# Altium schematic symbol library con-hirose.SCHLIB: 72 symbols
Pins are listed as number, name and electrical type; pins without a type are passive.

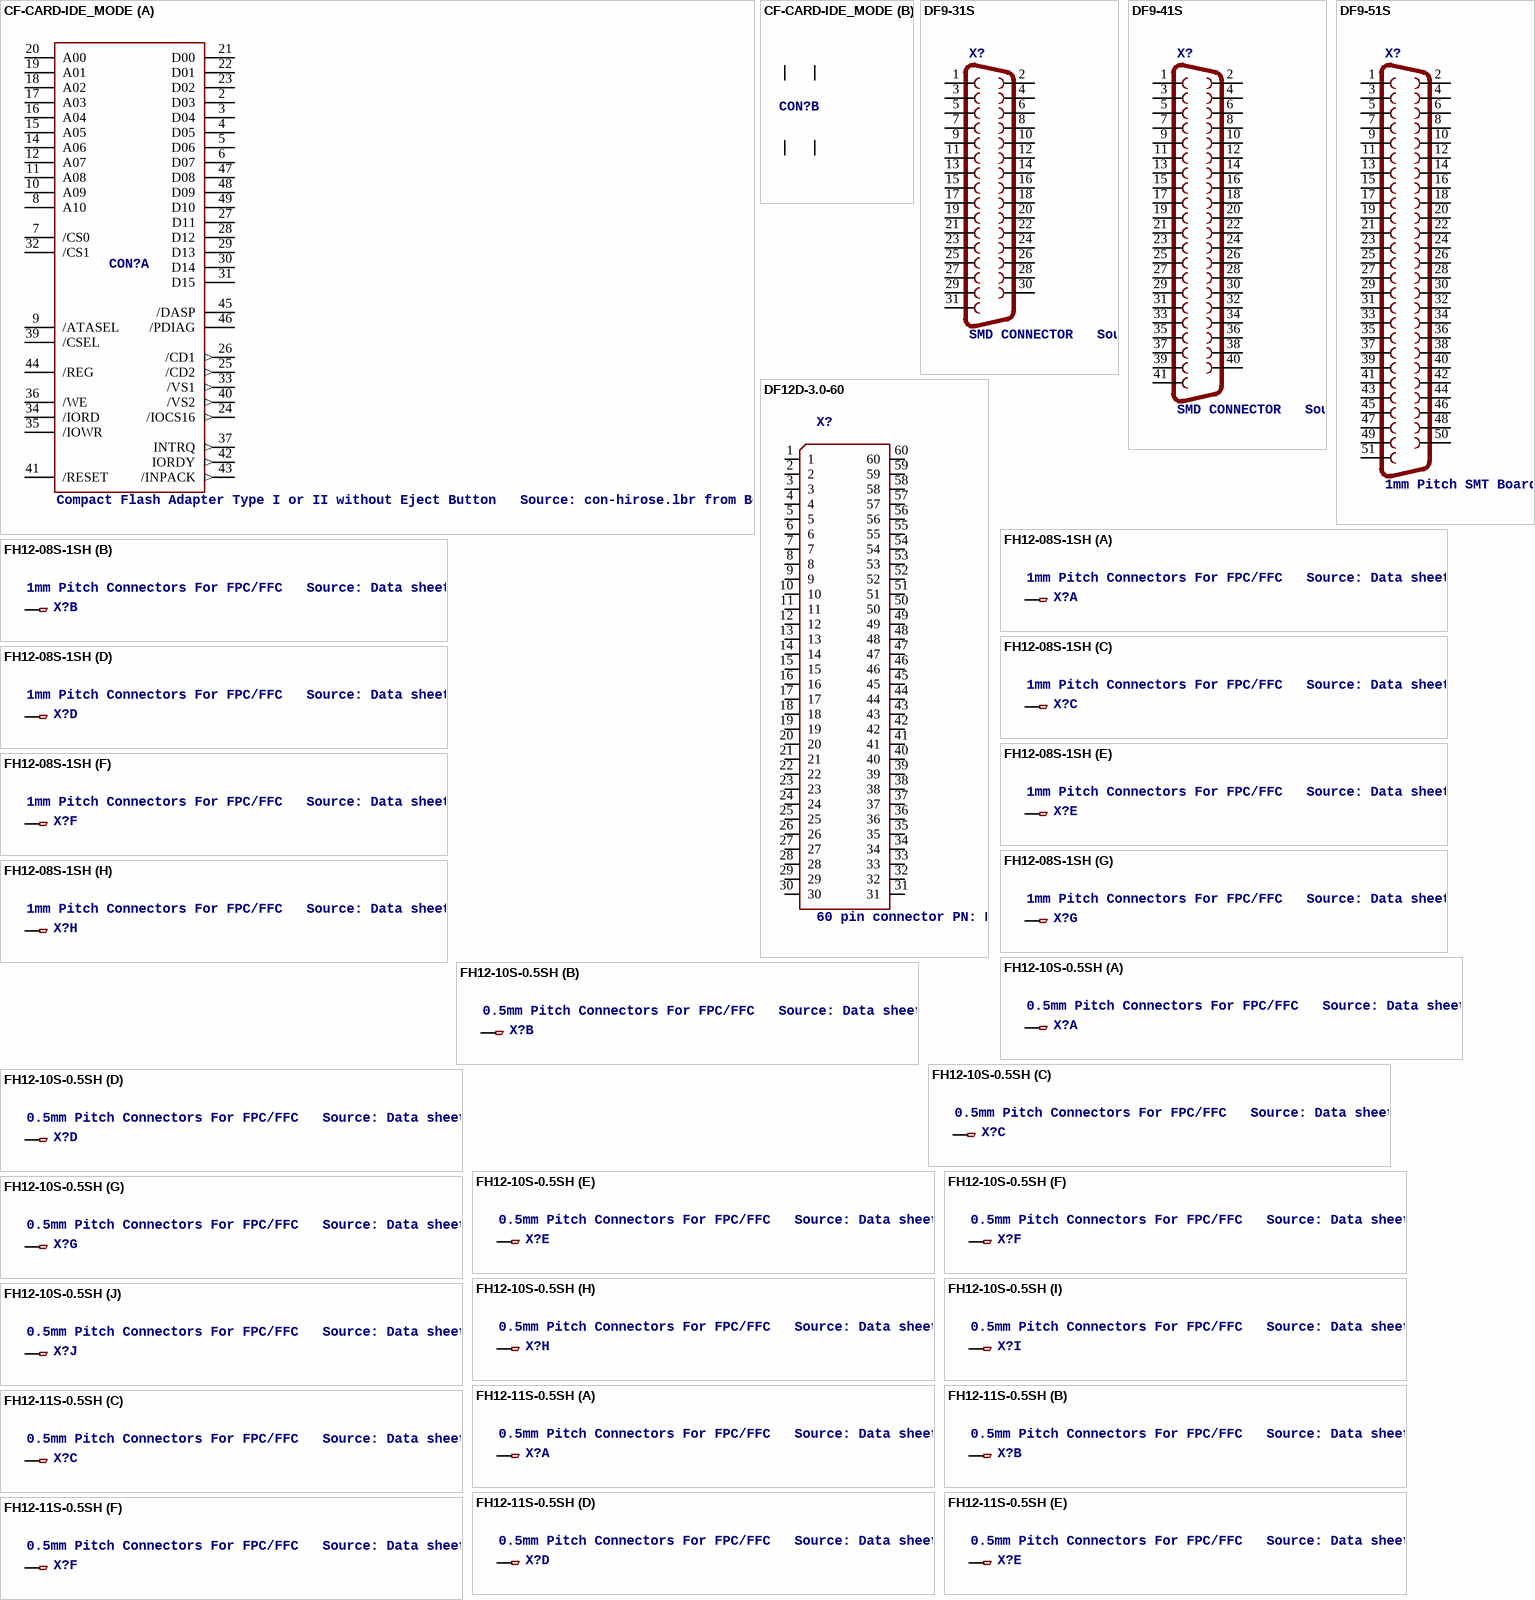
[diagram p0: symbols CF-CARD-IDE_MODE to FH12-11S-0.5SH]

## CF-CARD-IDE_MODE
designator CON?, comment Compact Flash Adapter Type I or II without Eject Button   Source: con-hirose.lbr from Bob Starr <rtzaudio@mindspring.com>
OC_FARNELL: unknown; OC_NEWARK: unknown
footprint MI20-50PD-SF
part A pins: 2 D03, 3 D04, 4 D05, 5 D06, 6 D07, 7 /CS0, 8 A10, 9 /ATASEL, 10 A09, 11 A08, 12 A07, 14 A06, 15 A05, 16 A04, 17 A03, 18 A02, 19 A01, 20 A00, 21 D00, 22 D01, 23 D02, 24 /IOCS16 (out), 25 /CD2 (out), 26 /CD1 (out), 27 D11, 28 D12, 29 D13, 30 D14, 31 D15, 32 /CS1, 33 /VS1 (out), 34 /IORD, 35 /IOWR, 36 /WE, 37 INTRQ (out), 39 /CSEL, 40 /VS2 (out), 41 /RESET, 42 IORDY (out), 43 /INPACK (out), 44 /REG, 45 /DASP, 46 /PDIAG, 47 D08, 48 D09, 49 D10
part B pins: 1 GND1 (power), 13 VCC2 (power), 38 VCC1 (power), 50 GND2 (power)

## DF9-31S
designator X?, comment SMD CONNECTOR   Source: con-hirose.lbr from Bob Starr <rtzaudio@mindspring.com>
MPN: DF9-31S-1V(32); OC_FARNELL: 1798382; OC_NEWARK: 74R3383
footprint DF9-31S
pins: 1, 2, 3, 4, 5, 6, 7, 8, 9, 10, 11, 12, 13, 14, 15, 16, 17, 18, 19, 20, 21, 22, 23, 24, 25, 26, 27, 28, 29, 30, 31

## DF9-41S
designator X?, comment SMD CONNECTOR   Source: con-hirose.lbr from Bob Starr <rtzaudio@mindspring.com>
MPN: DF9-41S-1V(32); OC_FARNELL: 1798384; OC_NEWARK: 74R3385
footprint DF9-41S
pins: 1, 2, 3, 4, 5, 6, 7, 8, 9, 10, 11, 12, 13, 14, 15, 16, 17, 18, 19, 20, 21, 22, 23, 24, 25, 26, 27, 28, 29, 30, 31, 32, 33, 34, 35, 36, 37, 38, 39, 40, 41

## DF9-51S
designator X?, comment 1mm Pitch SMT Board to Board Connector   (Standard Interface Connector Compliant with VESA FPDI-1) Source: http://www.hirose.co.jp/cataloge_hp/e54000041.pdf
OC_FARNELL: unknown; OC_NEWARK: unknown
footprint DF9-51S
pins: 1, 2, 3, 4, 5, 6, 7, 8, 9, 10, 11, 12, 13, 14, 15, 16, 17, 18, 19, 20, 21, 22, 23, 24, 25, 26, 27, 28, 29, 30, 31, 32, 33, 34, 35, 36, 37, 38, 39, 40, 41, 42, 43, 44, 45, 46, 47, 48, 49, 50, 51

## DF12D-3.0-60
designator X?, comment 60 pin connector PN: DF12D(3.0)-60DP-0.5V   Source: con-hirose-df12d(3.0)60dp0.5v80.lbr from Bob Starr <rtzaudio@mindspring.com>
OC_FARNELL: unknown; OC_NEWARK: unknown
footprint DF12-3.0-60
pins: 1, 2, 3, 4, 5, 6, 7, 8, 9, 10, 11, 12, 13, 14, 15, 16, 17, 18, 19, 20, 21, 22, 23, 24, 25, 26, 27, 28, 29, 30, 31, 32, 33, 34, 35, 36, 37, 38, 39, 40, 41, 42, 43, 44, 45, 46, 47, 48, 49, 50, 51, 52, 53, 54, 55, 56, 57, 58, 59, 60

## FH12-08S-1SH
designator X?, comment 1mm Pitch Connectors For FPC/FFC   Source: Data sheet
OC_FARNELL: unknown; OC_NEWARK: unknown
footprint FH12-08S-1SH
part A pins: 1
part B pins: 2 1
part C pins: 3 1
part D pins: 4 1
part E pins: 5 1
part F pins: 6 1
part G pins: 7 1
part H pins: 8 1

## FH12-10S-0.5SH
designator X?, comment 0.5mm Pitch Connectors For FPC/FFC   Source: Data sheet
MPN: FH12-10S-0.5SH(55); OC_FARNELL: 1324540; OC_NEWARK: 34M6152
footprint FH12-10S-0.5SH
part A pins: 1
part B pins: 2 1
part C pins: 3 1
part D pins: 4 1
part E pins: 5 1
part F pins: 6 1
part G pins: 7 1
part H pins: 8 1
part I pins: 9 1
part J pins: 10 1

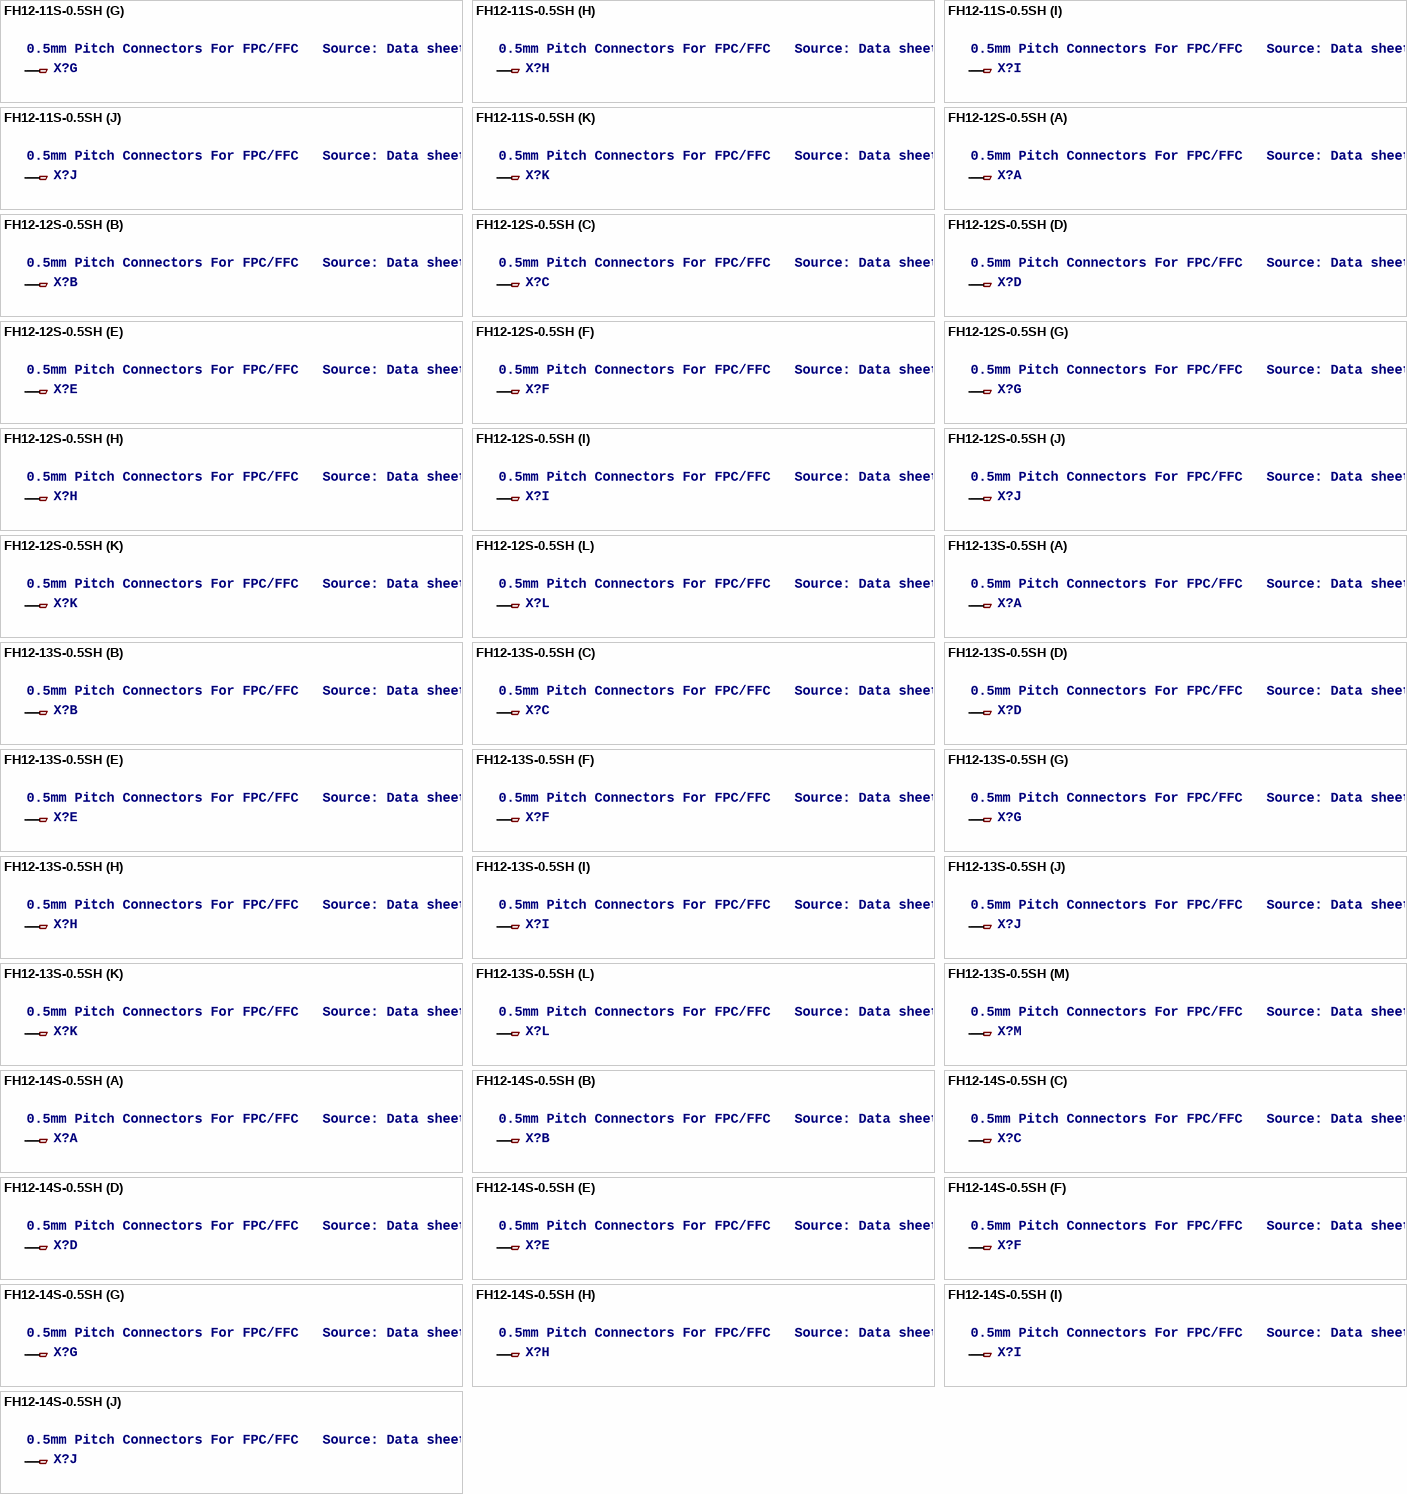
[diagram p1: symbols FH12-11S-0.5SH to FH12-14S-0.5SH]

## FH12-11S-0.5SH
designator X?, comment 0.5mm Pitch Connectors For FPC/FFC   Source: Data sheet
OC_FARNELL: 1324541; OC_NEWARK: unknown
footprint FH12-11S-0.5SH
part A pins: 1
part B pins: 2 1
part C pins: 3 1
part D pins: 4 1
part E pins: 5 1
part F pins: 6 1
part G pins: 7 1
part H pins: 8 1
part I pins: 9 1
part J pins: 10 1
part K pins: 11 1

## FH12-12S-0.5SH
designator X?, comment 0.5mm Pitch Connectors For FPC/FFC   Source: Data sheet
MPN: FH12-12S-0.5SH(55); OC_FARNELL: 1324542; OC_NEWARK: 34M6155
footprint FH12-12S-0.5SH
part A pins: 1
part B pins: 2 1
part C pins: 3 1
part D pins: 4 1
part E pins: 5 1
part F pins: 6 1
part G pins: 7 1
part H pins: 8 1
part I pins: 9 1
part J pins: 10 1
part K pins: 11 1
part L pins: 12 1

## FH12-13S-0.5SH
designator X?, comment 0.5mm Pitch Connectors For FPC/FFC   Source: Data sheet
OC_FARNELL: 1324543; OC_NEWARK: unknown
footprint FH12-13S-0.5SH
part A pins: 1
part B pins: 2 1
part C pins: 3 1
part D pins: 4 1
part E pins: 5 1
part F pins: 6 1
part G pins: 7 1
part H pins: 8 1
part I pins: 9 1
part J pins: 10 1
part K pins: 11 1
part L pins: 12 1
part M pins: 13 1

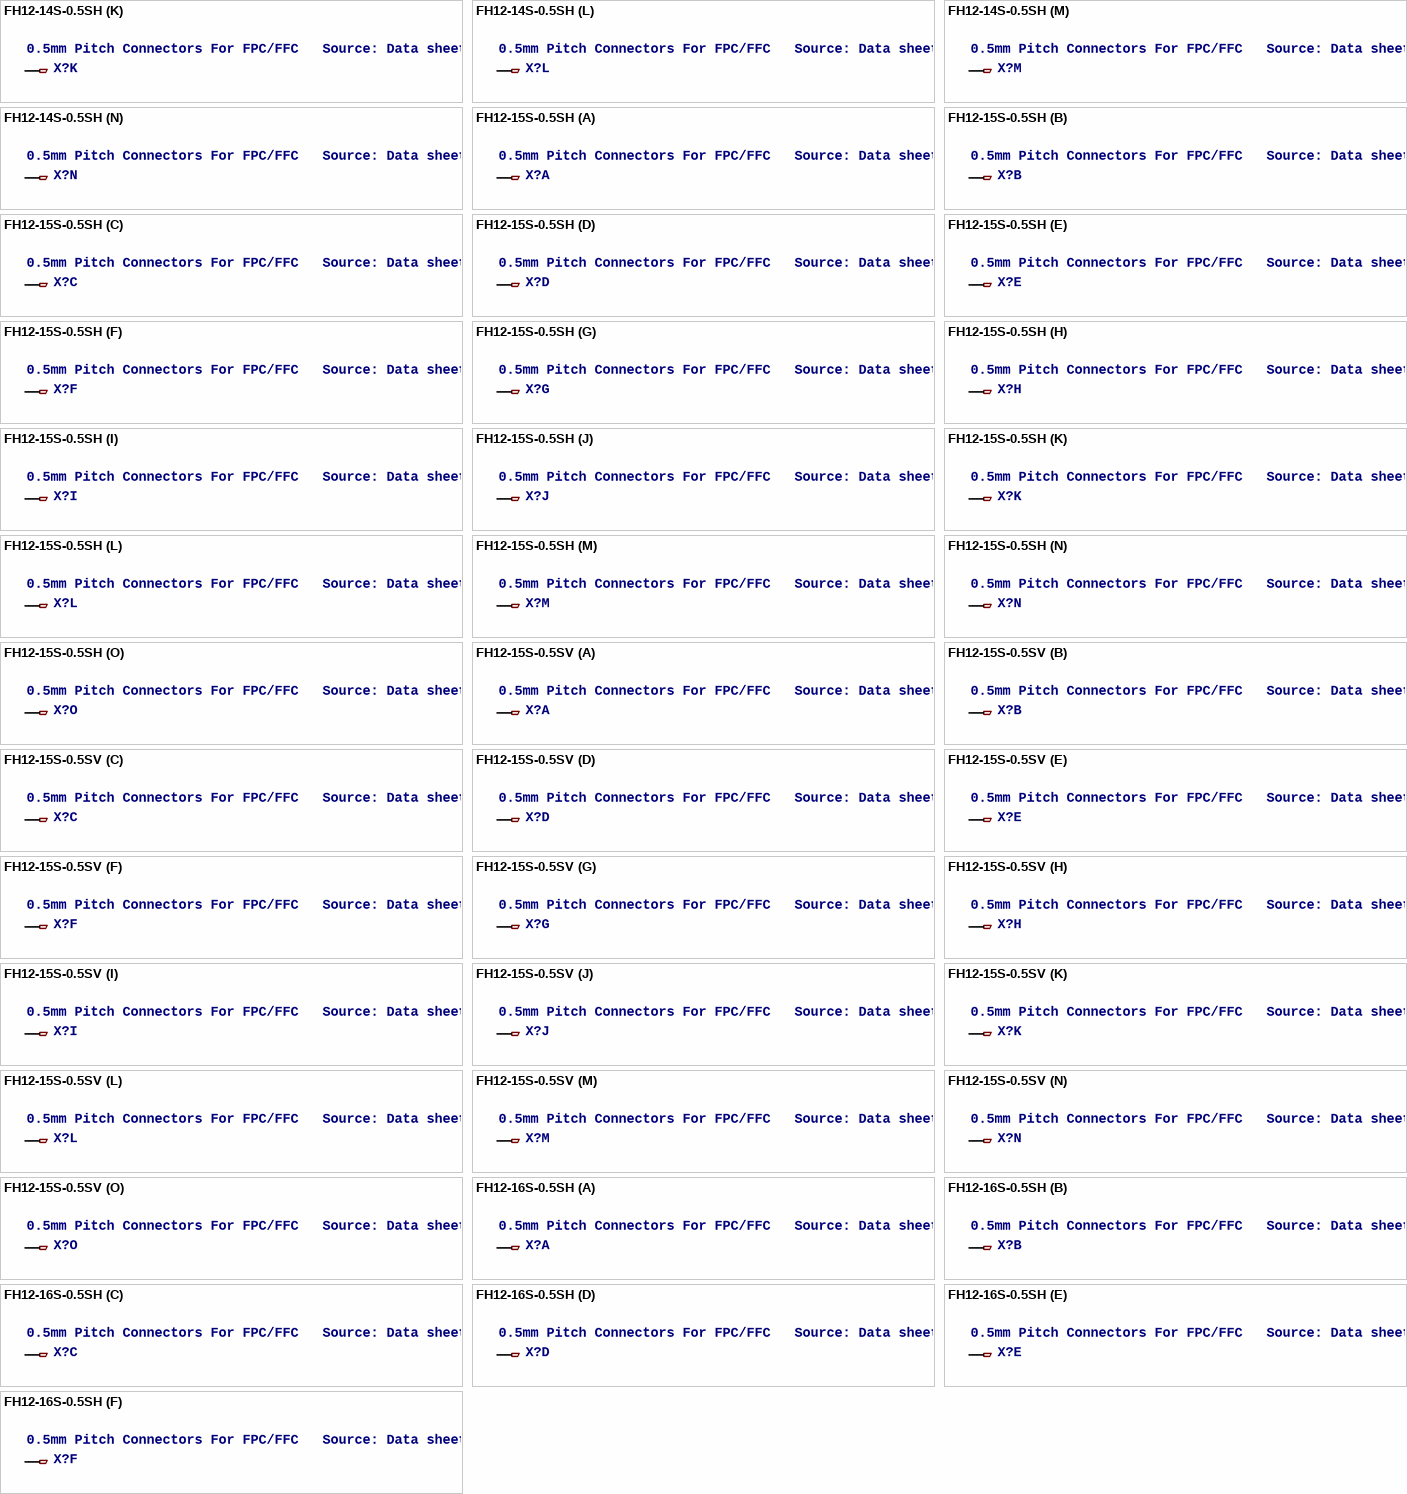
[diagram p2: symbols FH12-14S-0.5SH to FH12-16S-0.5SH]

## FH12-14S-0.5SH
designator X?, comment 0.5mm Pitch Connectors For FPC/FFC   Source: Data sheet
MPN: MC34827; OC_FARNELL: 1324544; OC_NEWARK: 41P0493
footprint FH12-14S-0.5SH
part A pins: 1
part B pins: 2 1
part C pins: 3 1
part D pins: 4 1
part E pins: 5 1
part F pins: 6 1
part G pins: 7 1
part H pins: 8 1
part I pins: 9 1
part J pins: 10 1
part K pins: 11 1
part L pins: 12 1
part M pins: 13 1
part N pins: 14 1

## FH12-15S-0.5SH
designator X?, comment 0.5mm Pitch Connectors For FPC/FFC   Source: Data sheet
OC_FARNELL: 1324545; OC_NEWARK: unknown
footprint FH12-15S-0.5SH
part A pins: 1
part B pins: 2 1
part C pins: 3 1
part D pins: 4 1
part E pins: 5 1
part F pins: 6 1
part G pins: 7 1
part H pins: 8 1
part I pins: 9 1
part J pins: 10 1
part K pins: 11 1
part L pins: 12 1
part M pins: 13 1
part N pins: 14 1
part O pins: 15 1

## FH12-15S-0.5SV
designator X?, comment 0.5mm Pitch Connectors For FPC/FFC   Source: Data sheet
OC_FARNELL: 1324575; OC_NEWARK: unknown
footprint FH12-15S-0.5SV
part A pins: 1
part B pins: 2 1
part C pins: 3 1
part D pins: 4 1
part E pins: 5 1
part F pins: 6 1
part G pins: 7 1
part H pins: 8 1
part I pins: 9 1
part J pins: 10 1
part K pins: 11 1
part L pins: 12 1
part M pins: 13 1
part N pins: 14 1
part O pins: 15 1

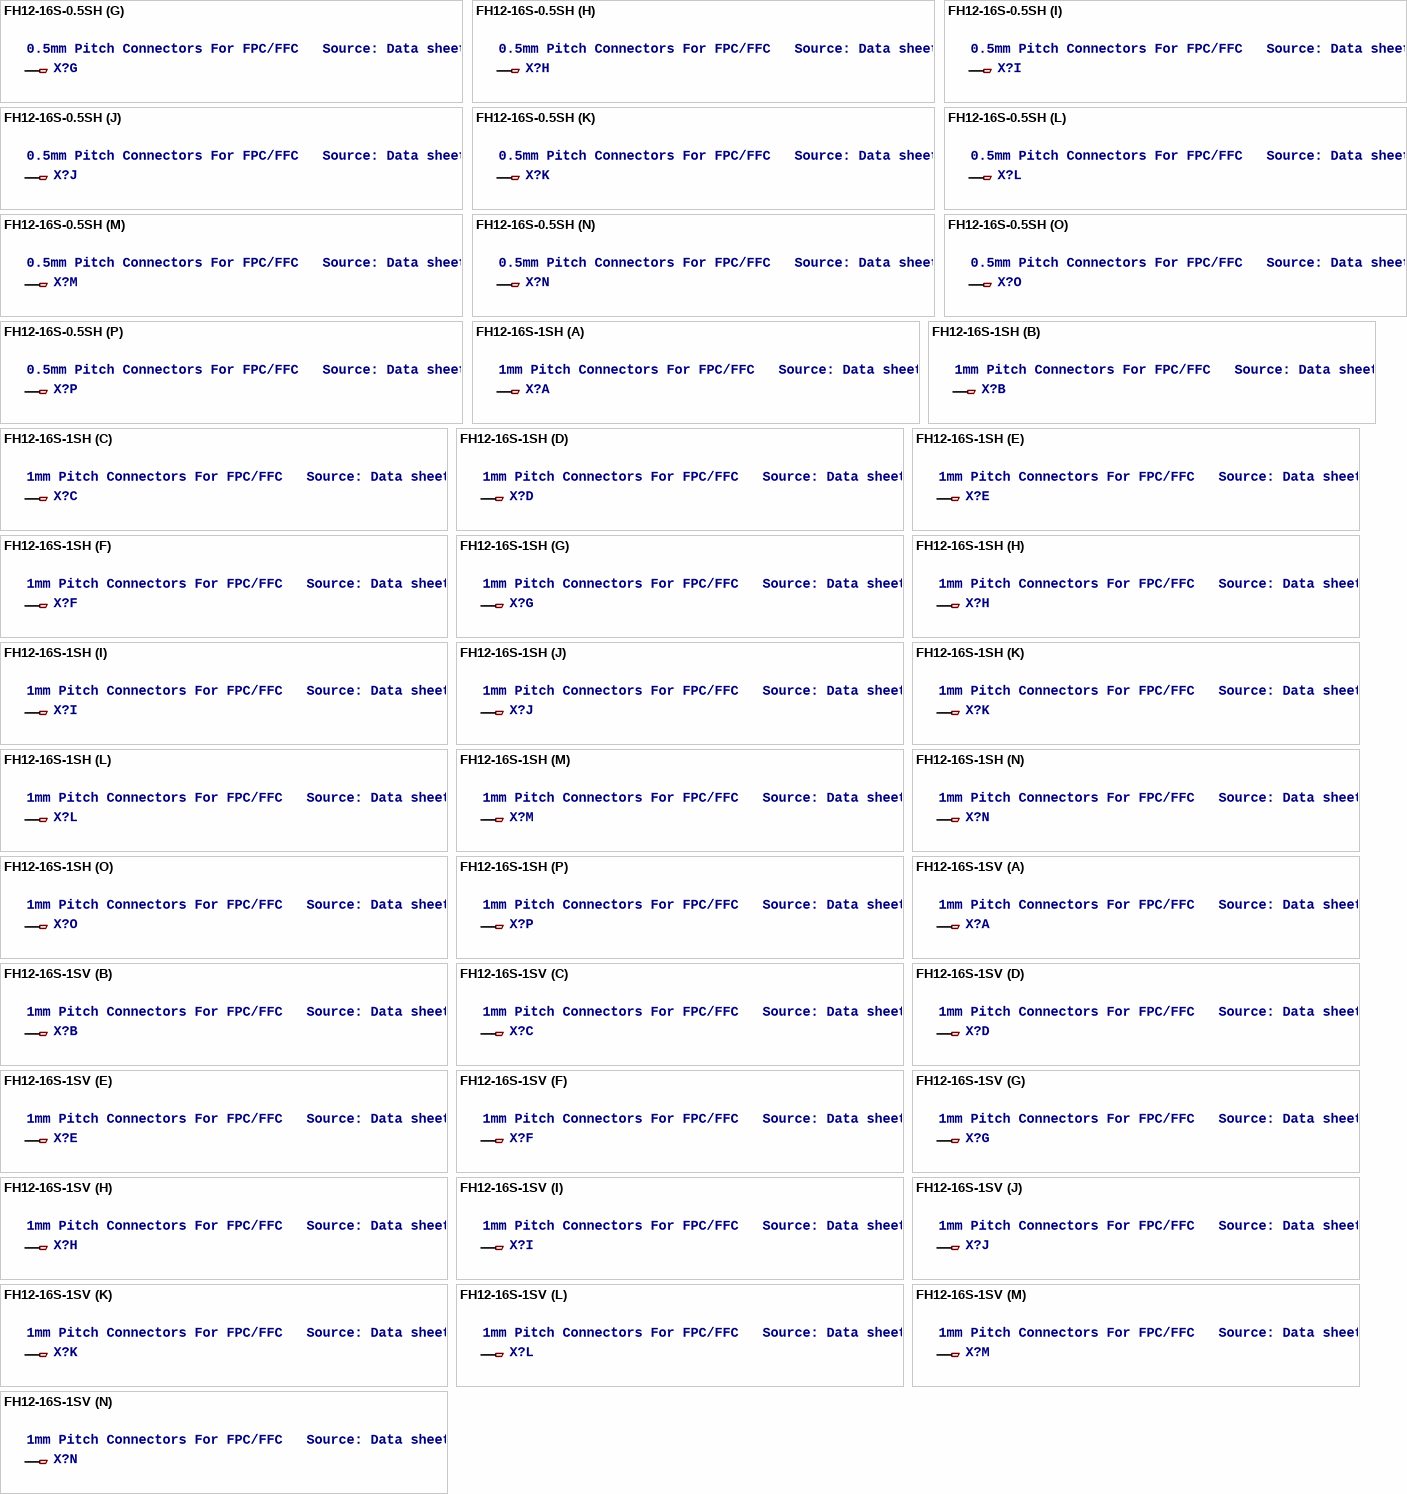
[diagram p3: symbols FH12-16S-0.5SH to FH12-16S-1SV]

## FH12-16S-0.5SH
designator X?, comment 0.5mm Pitch Connectors For FPC/FFC   Source: Data sheet
MPN: FH12-16S-0.5SH(55); OC_FARNELL: 1324546; OC_NEWARK: 34M6162
footprint FH12-16S-0.5SH
part A pins: 1
part B pins: 2 1
part C pins: 3 1
part D pins: 4 1
part E pins: 5 1
part F pins: 6 1
part G pins: 7 1
part H pins: 8 1
part I pins: 9 1
part J pins: 10 1
part K pins: 11 1
part L pins: 12 1
part M pins: 13 1
part N pins: 14 1
part O pins: 15 1
part P pins: 16 1

## FH12-16S-1SH
designator X?, comment 1mm Pitch Connectors For FPC/FFC   Source: Data sheet
OC_FARNELL: unknown; OC_NEWARK: unknown
footprint FH12-16S-1SH
part A pins: 1
part B pins: 2 1
part C pins: 3 1
part D pins: 4 1
part E pins: 5 1
part F pins: 6 1
part G pins: 7 1
part H pins: 8 1
part I pins: 9 1
part J pins: 10 1
part K pins: 11 1
part L pins: 12 1
part M pins: 13 1
part N pins: 14 1
part O pins: 15 1
part P pins: 16 1

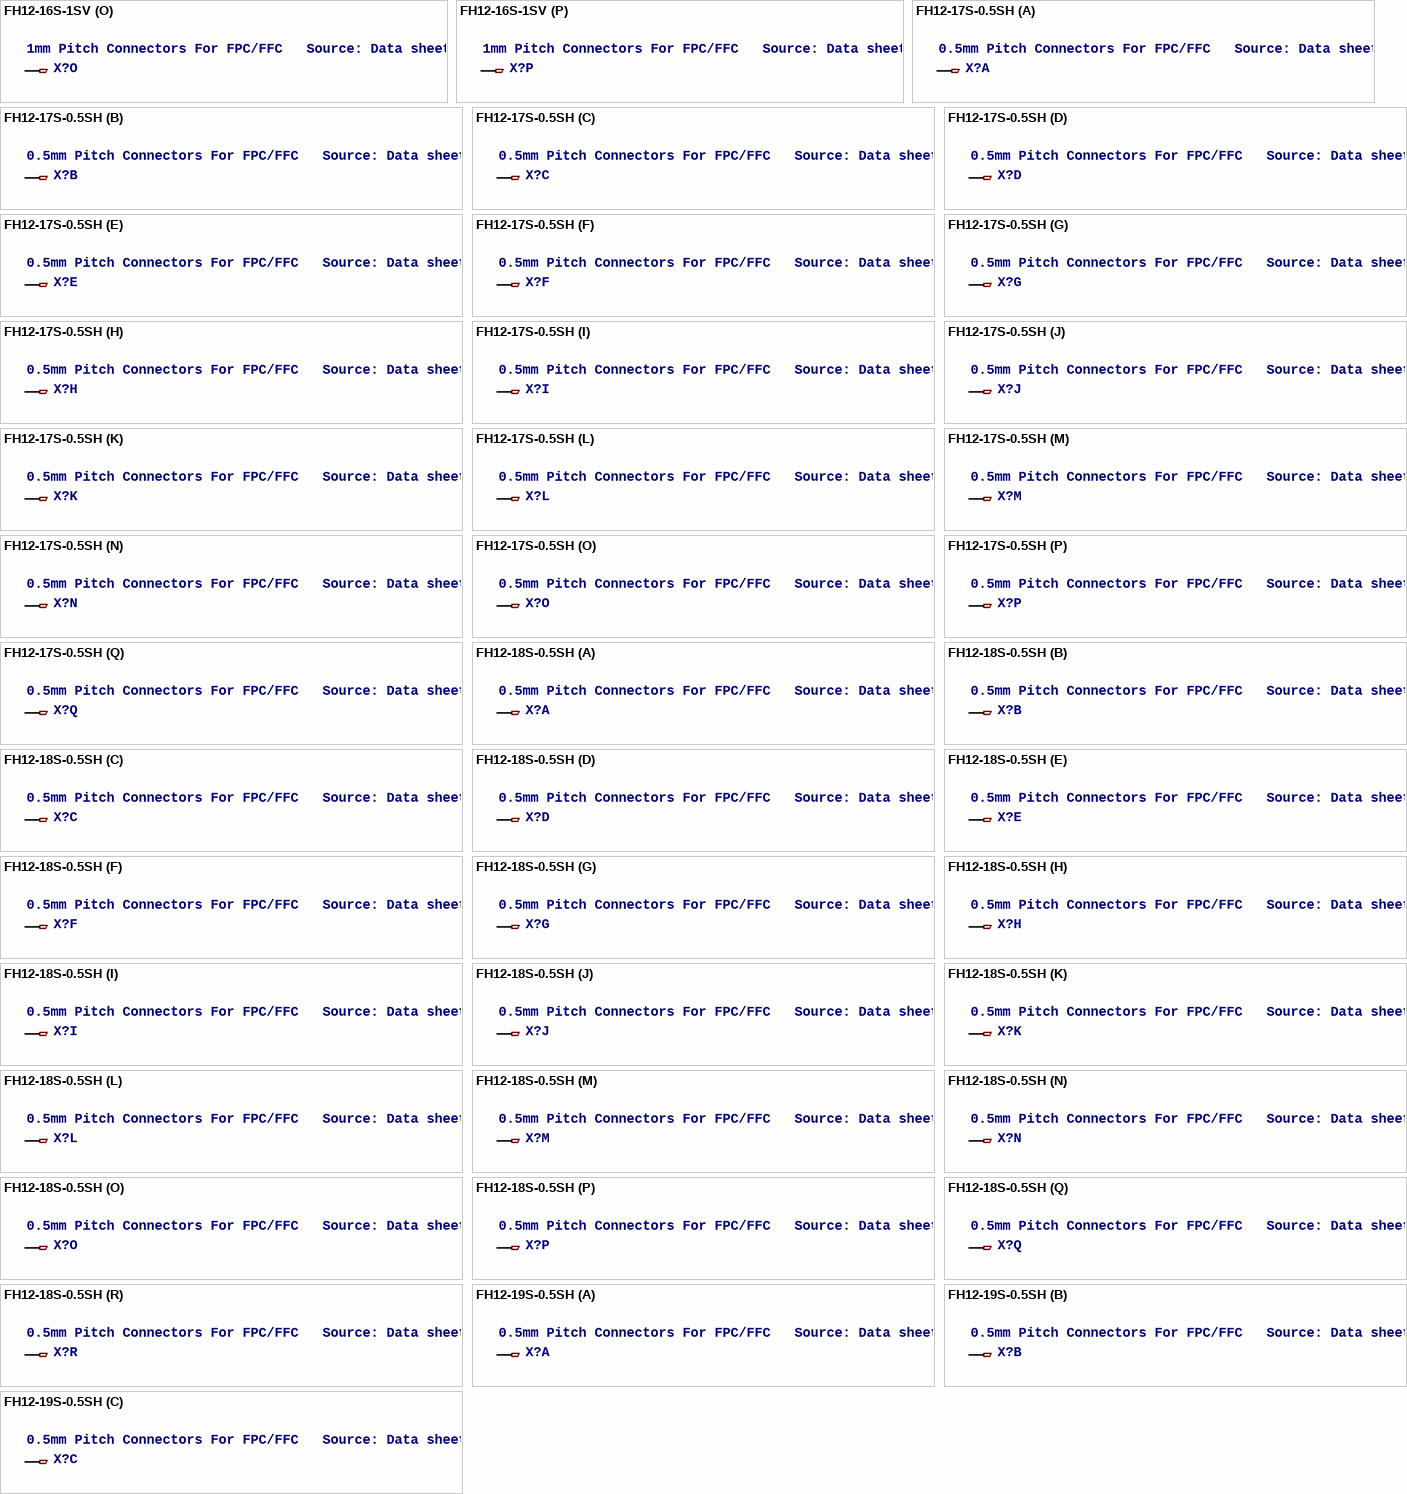
[diagram p4: symbols FH12-16S-1SV to FH12-19S-0.5SH]

## FH12-16S-1SV
designator X?, comment 1mm Pitch Connectors For FPC/FFC   Source: Data sheet
OC_FARNELL: unknown; OC_NEWARK: unknown
footprint FH12-16S-1SV
part A pins: 1
part B pins: 2 1
part C pins: 3 1
part D pins: 4 1
part E pins: 5 1
part F pins: 6 1
part G pins: 7 1
part H pins: 8 1
part I pins: 9 1
part J pins: 10 1
part K pins: 11 1
part L pins: 12 1
part M pins: 13 1
part N pins: 14 1
part O pins: 15 1
part P pins: 16 1

## FH12-17S-0.5SH
designator X?, comment 0.5mm Pitch Connectors For FPC/FFC   Source: Data sheet
OC_FARNELL: unknown; OC_NEWARK: unknown
footprint FH12-17S-0.5SH
part A pins: 1
part B pins: 2 1
part C pins: 3 1
part D pins: 4 1
part E pins: 5 1
part F pins: 6 1
part G pins: 7 1
part H pins: 8 1
part I pins: 9 1
part J pins: 10 1
part K pins: 11 1
part L pins: 12 1
part M pins: 13 1
part N pins: 14 1
part O pins: 15 1
part P pins: 16 1
part Q pins: 17 1

## FH12-18S-0.5SH
designator X?, comment 0.5mm Pitch Connectors For FPC/FFC   Source: Data sheet
MPN: FH12-18S-0.5SH(55); OC_FARNELL: 1324547; OC_NEWARK: 34M6164
footprint FH12-18S-0.5SH
part A pins: 1
part B pins: 2 1
part C pins: 3 1
part D pins: 4 1
part E pins: 5 1
part F pins: 6 1
part G pins: 7 1
part H pins: 8 1
part I pins: 9 1
part J pins: 10 1
part K pins: 11 1
part L pins: 12 1
part M pins: 13 1
part N pins: 14 1
part O pins: 15 1
part P pins: 16 1
part Q pins: 17 1
part R pins: 18 1

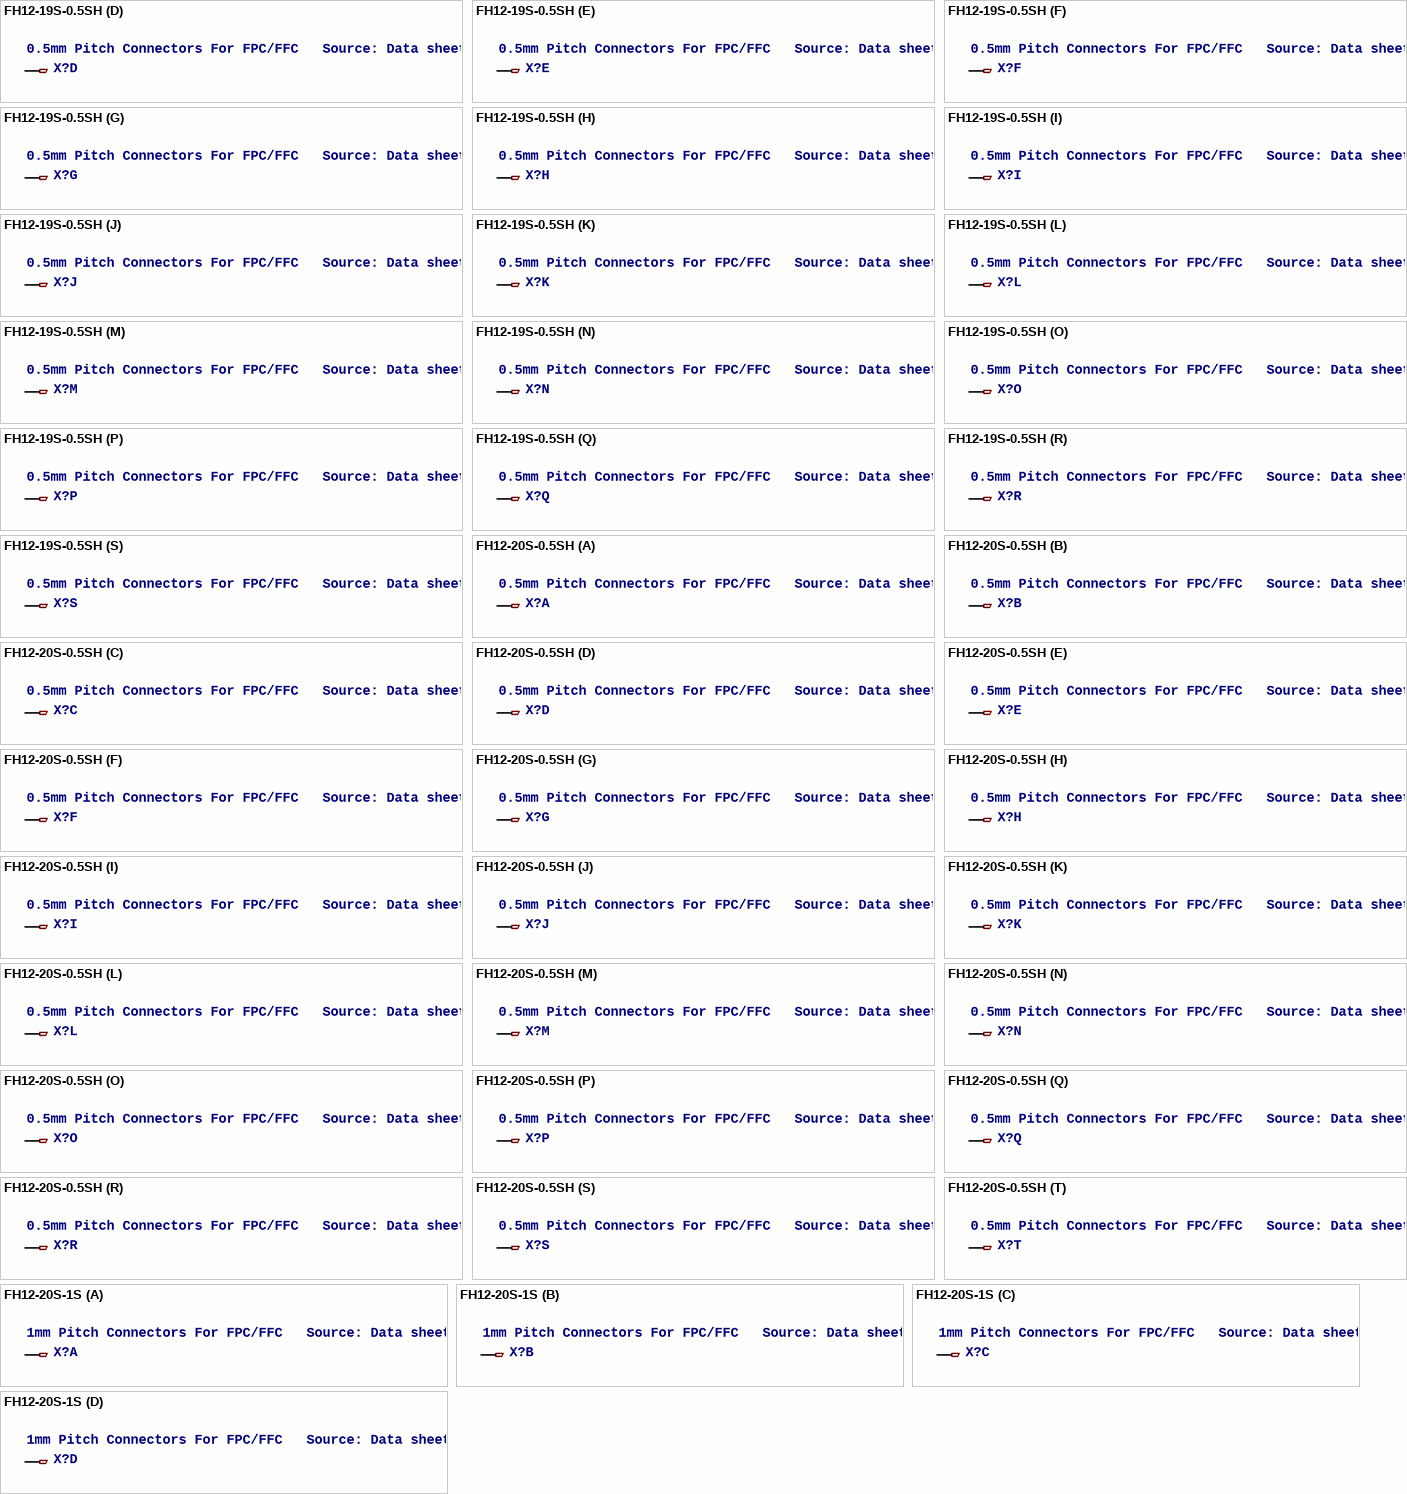
[diagram p5: symbols FH12-19S-0.5SH to FH12-20S-1S]

## FH12-19S-0.5SH
designator X?, comment 0.5mm Pitch Connectors For FPC/FFC   Source: Data sheet
OC_FARNELL: unknown; OC_NEWARK: unknown
footprint FH12-19S-0.5SH
part A pins: 1
part B pins: 2 1
part C pins: 3 1
part D pins: 4 1
part E pins: 5 1
part F pins: 6 1
part G pins: 7 1
part H pins: 8 1
part I pins: 9 1
part J pins: 10 1
part K pins: 11 1
part L pins: 12 1
part M pins: 13 1
part N pins: 14 1
part O pins: 15 1
part P pins: 16 1
part Q pins: 17 1
part R pins: 18 1
part S pins: 19 1

## FH12-20S-0.5SH
designator X?, comment 0.5mm Pitch Connectors For FPC/FFC   Source: Data sheet
MPN: FH12-20S-0.5SH(55); OC_FARNELL: 1324549; OC_NEWARK: 34M6166
footprint FH12-20S-0.5SH
part A pins: 1
part B pins: 2 1
part C pins: 3 1
part D pins: 4 1
part E pins: 5 1
part F pins: 6 1
part G pins: 7 1
part H pins: 8 1
part I pins: 9 1
part J pins: 10 1
part K pins: 11 1
part L pins: 12 1
part M pins: 13 1
part N pins: 14 1
part O pins: 15 1
part P pins: 16 1
part Q pins: 17 1
part R pins: 18 1
part S pins: 19 1
part T pins: 20 1

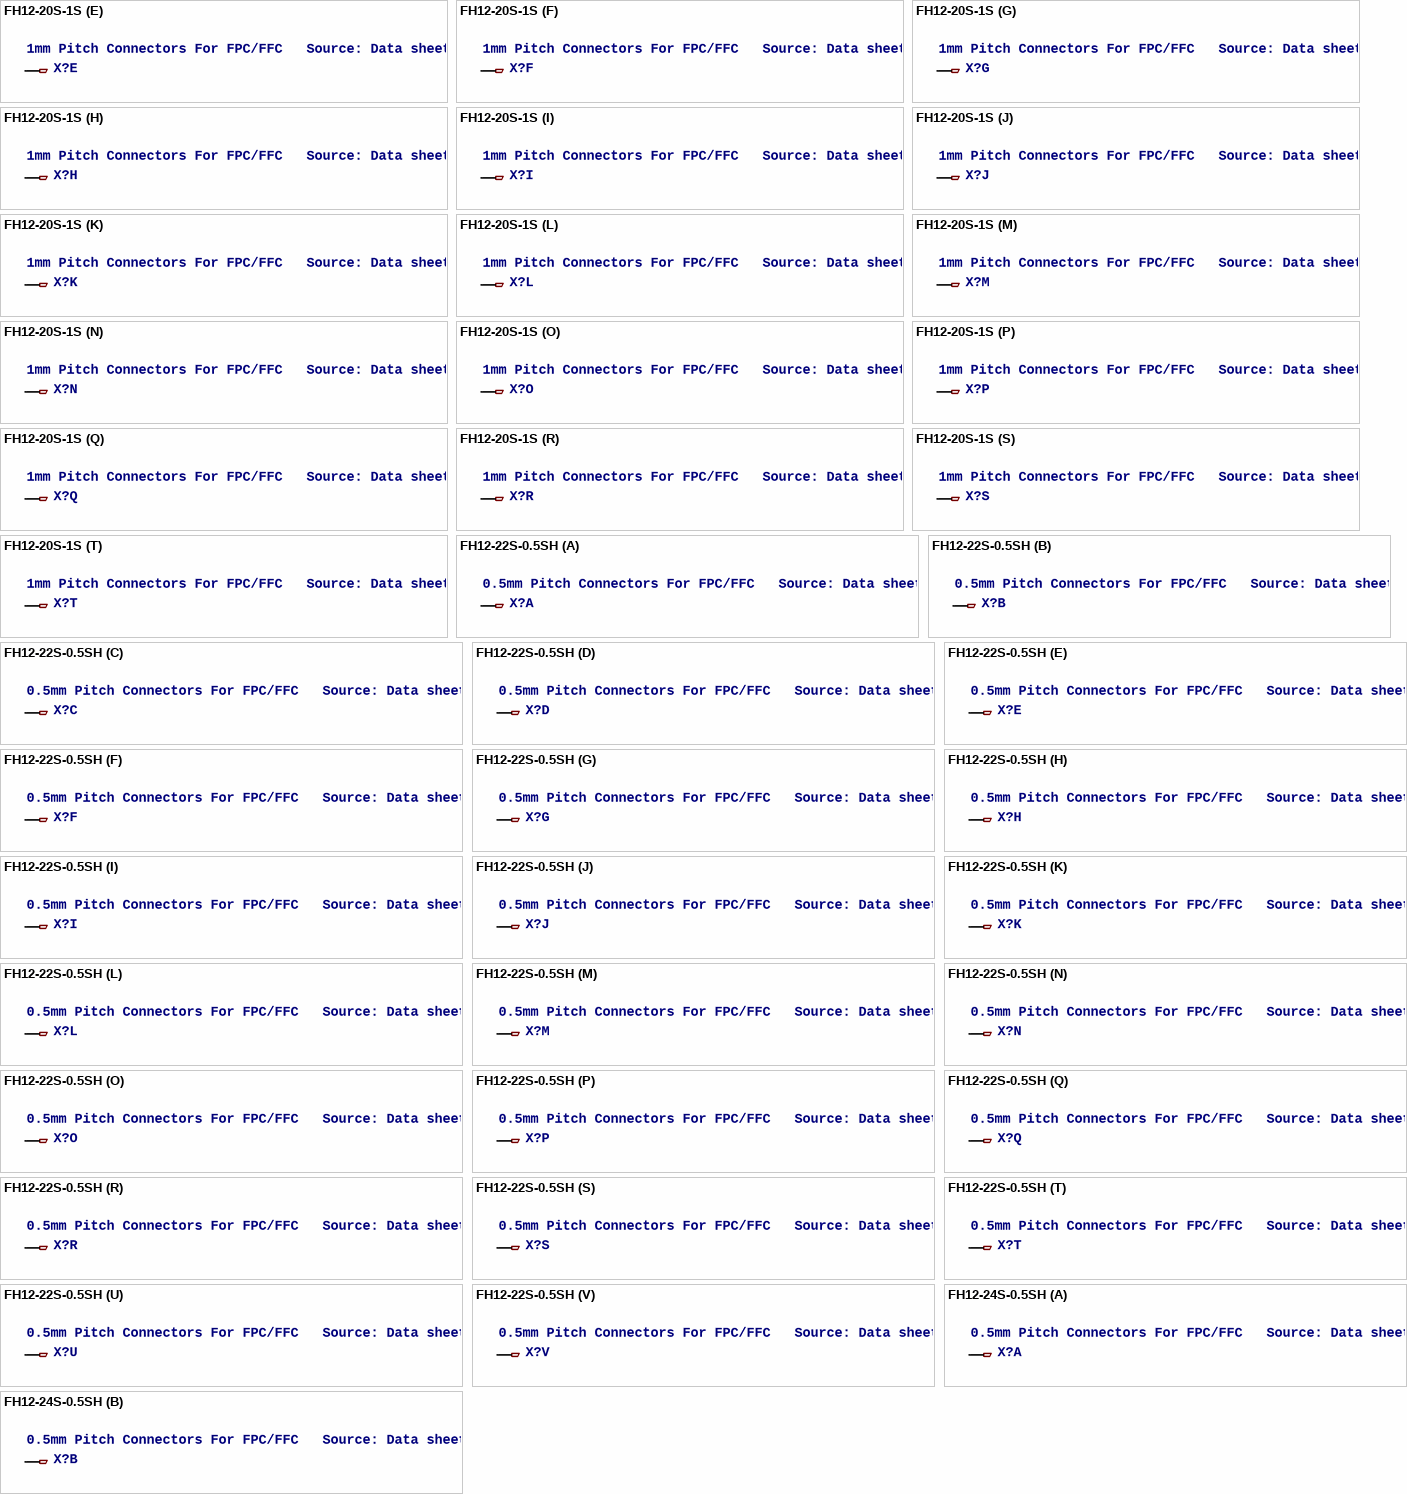
[diagram p6: symbols FH12-20S-1S to FH12-24S-0.5SH]

## FH12-20S-1S
designator X?, comment 1mm Pitch Connectors For FPC/FFC   Source: Data sheet
OC_FARNELL: unknown; OC_NEWARK: unknown
footprint FH12-20S-1SV
part A pins: 1
part B pins: 2 1
part C pins: 3 1
part D pins: 4 1
part E pins: 5 1
part F pins: 6 1
part G pins: 7 1
part H pins: 8 1
part I pins: 9 1
part J pins: 10 1
part K pins: 11 1
part L pins: 12 1
part M pins: 13 1
part N pins: 14 1
part O pins: 15 1
part P pins: 16 1
part Q pins: 17 1
part R pins: 18 1
part S pins: 19 1
part T pins: 20 1

## FH12-22S-0.5SH
designator X?, comment 0.5mm Pitch Connectors For FPC/FFC   Source: Data sheet
OC_FARNELL: 1324551; OC_NEWARK: unknown
footprint FH12-22S-0.5SH
part A pins: 1
part B pins: 2 1
part C pins: 3 1
part D pins: 4 1
part E pins: 5 1
part F pins: 6 1
part G pins: 7 1
part H pins: 8 1
part I pins: 9 1
part J pins: 10 1
part K pins: 11 1
part L pins: 12 1
part M pins: 13 1
part N pins: 14 1
part O pins: 15 1
part P pins: 16 1
part Q pins: 17 1
part R pins: 18 1
part S pins: 19 1
part T pins: 20 1
part U pins: 21 1
part V pins: 22 1

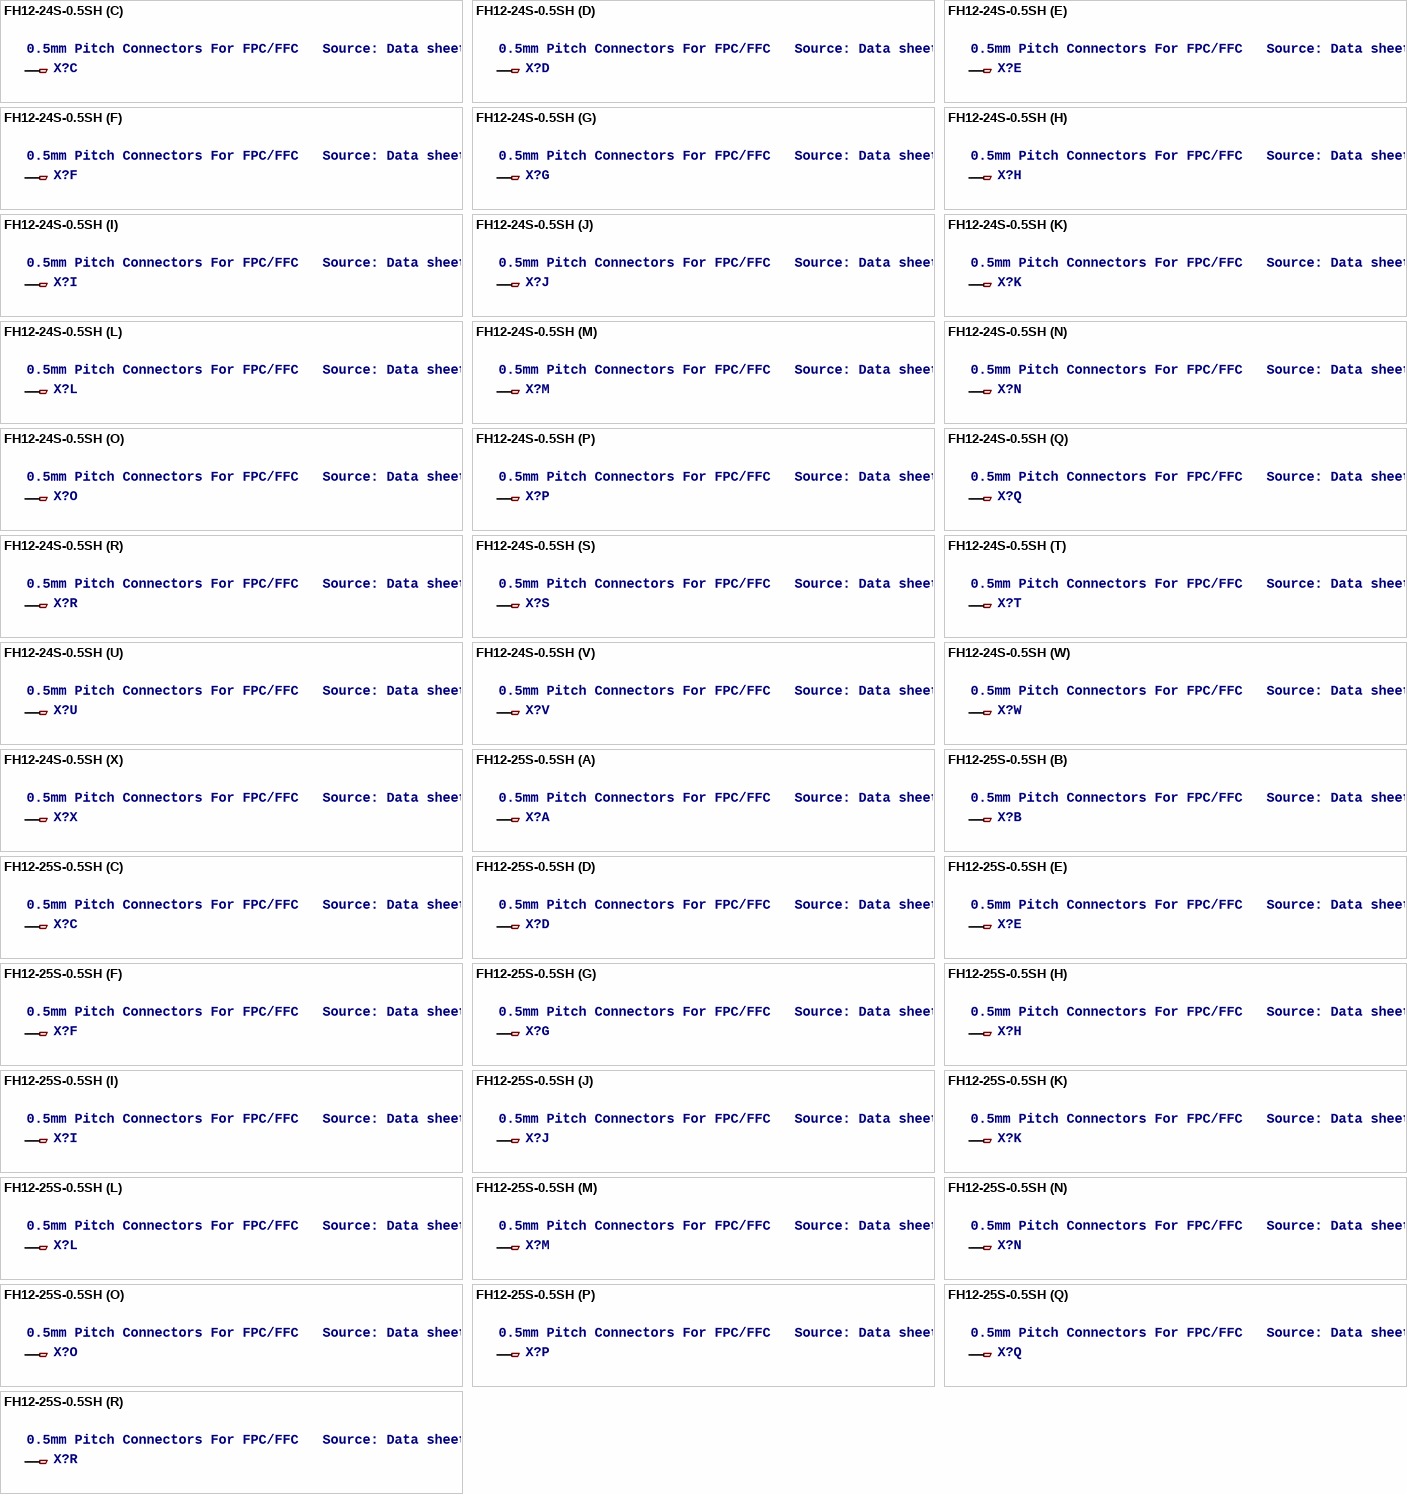
[diagram p7: symbols FH12-24S-0.5SH to FH12-25S-0.5SH]

## FH12-24S-0.5SH
designator X?, comment 0.5mm Pitch Connectors For FPC/FFC   Source: Data sheet
MPN: FH12-24S-0.5SH(55); OC_FARNELL: 1324552; OC_NEWARK: 34M6170
footprint FH12-24S-0.5SH
part A pins: 1
part B pins: 2 1
part C pins: 3 1
part D pins: 4 1
part E pins: 5 1
part F pins: 6 1
part G pins: 7 1
part H pins: 8 1
part I pins: 9 1
part J pins: 10 1
part K pins: 11 1
part L pins: 12 1
part M pins: 13 1
part N pins: 14 1
part O pins: 15 1
part P pins: 16 1
part Q pins: 17 1
part R pins: 18 1
part S pins: 19 1
part T pins: 20 1
part U pins: 21 1
part V pins: 22 1
part W pins: 23 1
part X pins: 24 1

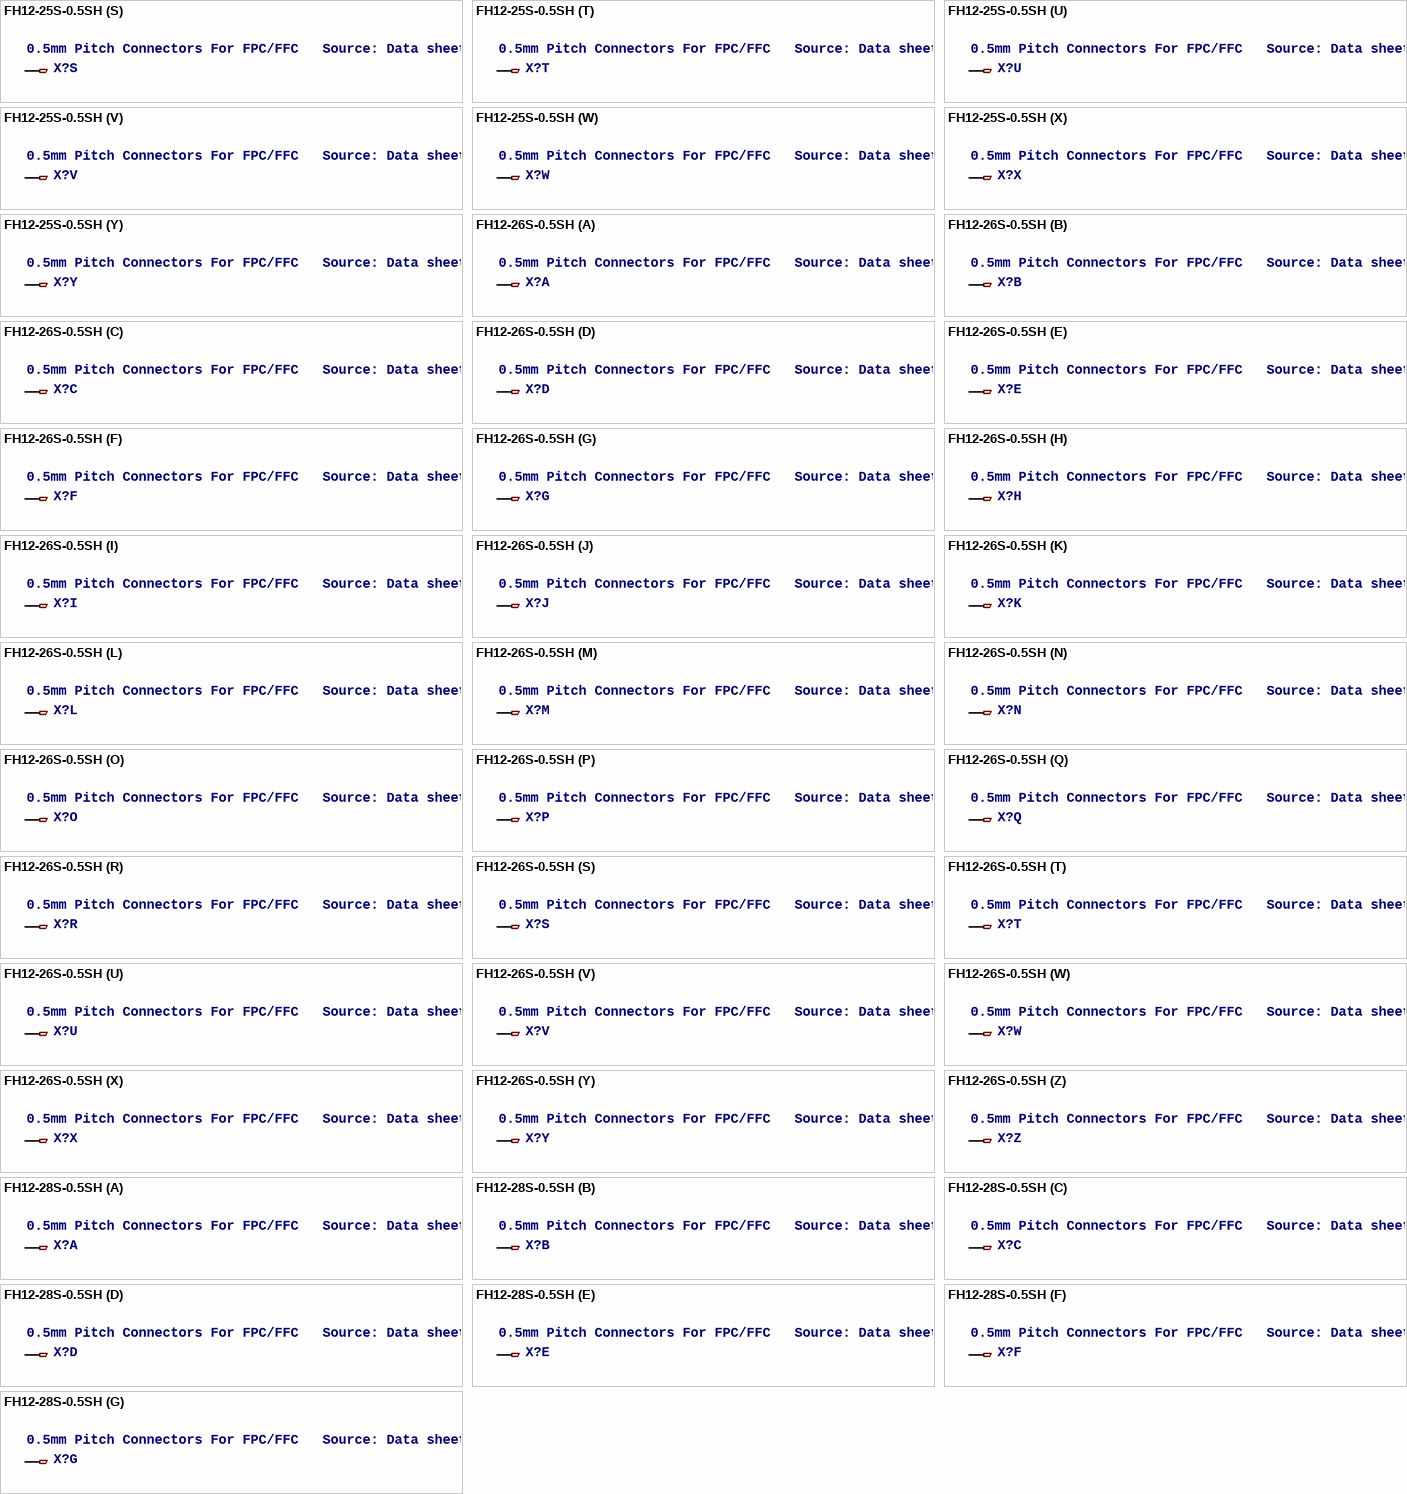
[diagram p8: symbols FH12-25S-0.5SH to FH12-28S-0.5SH]

## FH12-25S-0.5SH
designator X?, comment 0.5mm Pitch Connectors For FPC/FFC   Source: Data sheet
OC_FARNELL: unknown; OC_NEWARK: unknown
footprint FH12-25S-0.5SH
part A pins: 1
part B pins: 2 1
part C pins: 3 1
part D pins: 4 1
part E pins: 5 1
part F pins: 6 1
part G pins: 7 1
part H pins: 8 1
part I pins: 9 1
part J pins: 10 1
part K pins: 11 1
part L pins: 12 1
part M pins: 13 1
part N pins: 14 1
part O pins: 15 1
part P pins: 16 1
part Q pins: 17 1
part R pins: 18 1
part S pins: 19 1
part T pins: 20 1
part U pins: 21 1
part V pins: 22 1
part W pins: 23 1
part X pins: 24 1
part Y pins: 25 1

## FH12-26S-0.5SH
designator X?, comment 0.5mm Pitch Connectors For FPC/FFC   Source: Data sheet
MPN: FH12-26S-0.5SH(55); OC_FARNELL: 1324553; OC_NEWARK: 34M6172
footprint FH12-26S-0.5SH
part A pins: 1
part B pins: 2 1
part C pins: 3 1
part D pins: 4 1
part E pins: 5 1
part F pins: 6 1
part G pins: 7 1
part H pins: 8 1
part I pins: 9 1
part J pins: 10 1
part K pins: 11 1
part L pins: 12 1
part M pins: 13 1
part N pins: 14 1
part O pins: 15 1
part P pins: 16 1
part Q pins: 17 1
part R pins: 18 1
part S pins: 19 1
part T pins: 20 1
part U pins: 21 1
part V pins: 22 1
part W pins: 23 1
part X pins: 24 1
part Y pins: 25 1
part Z pins: 26 1

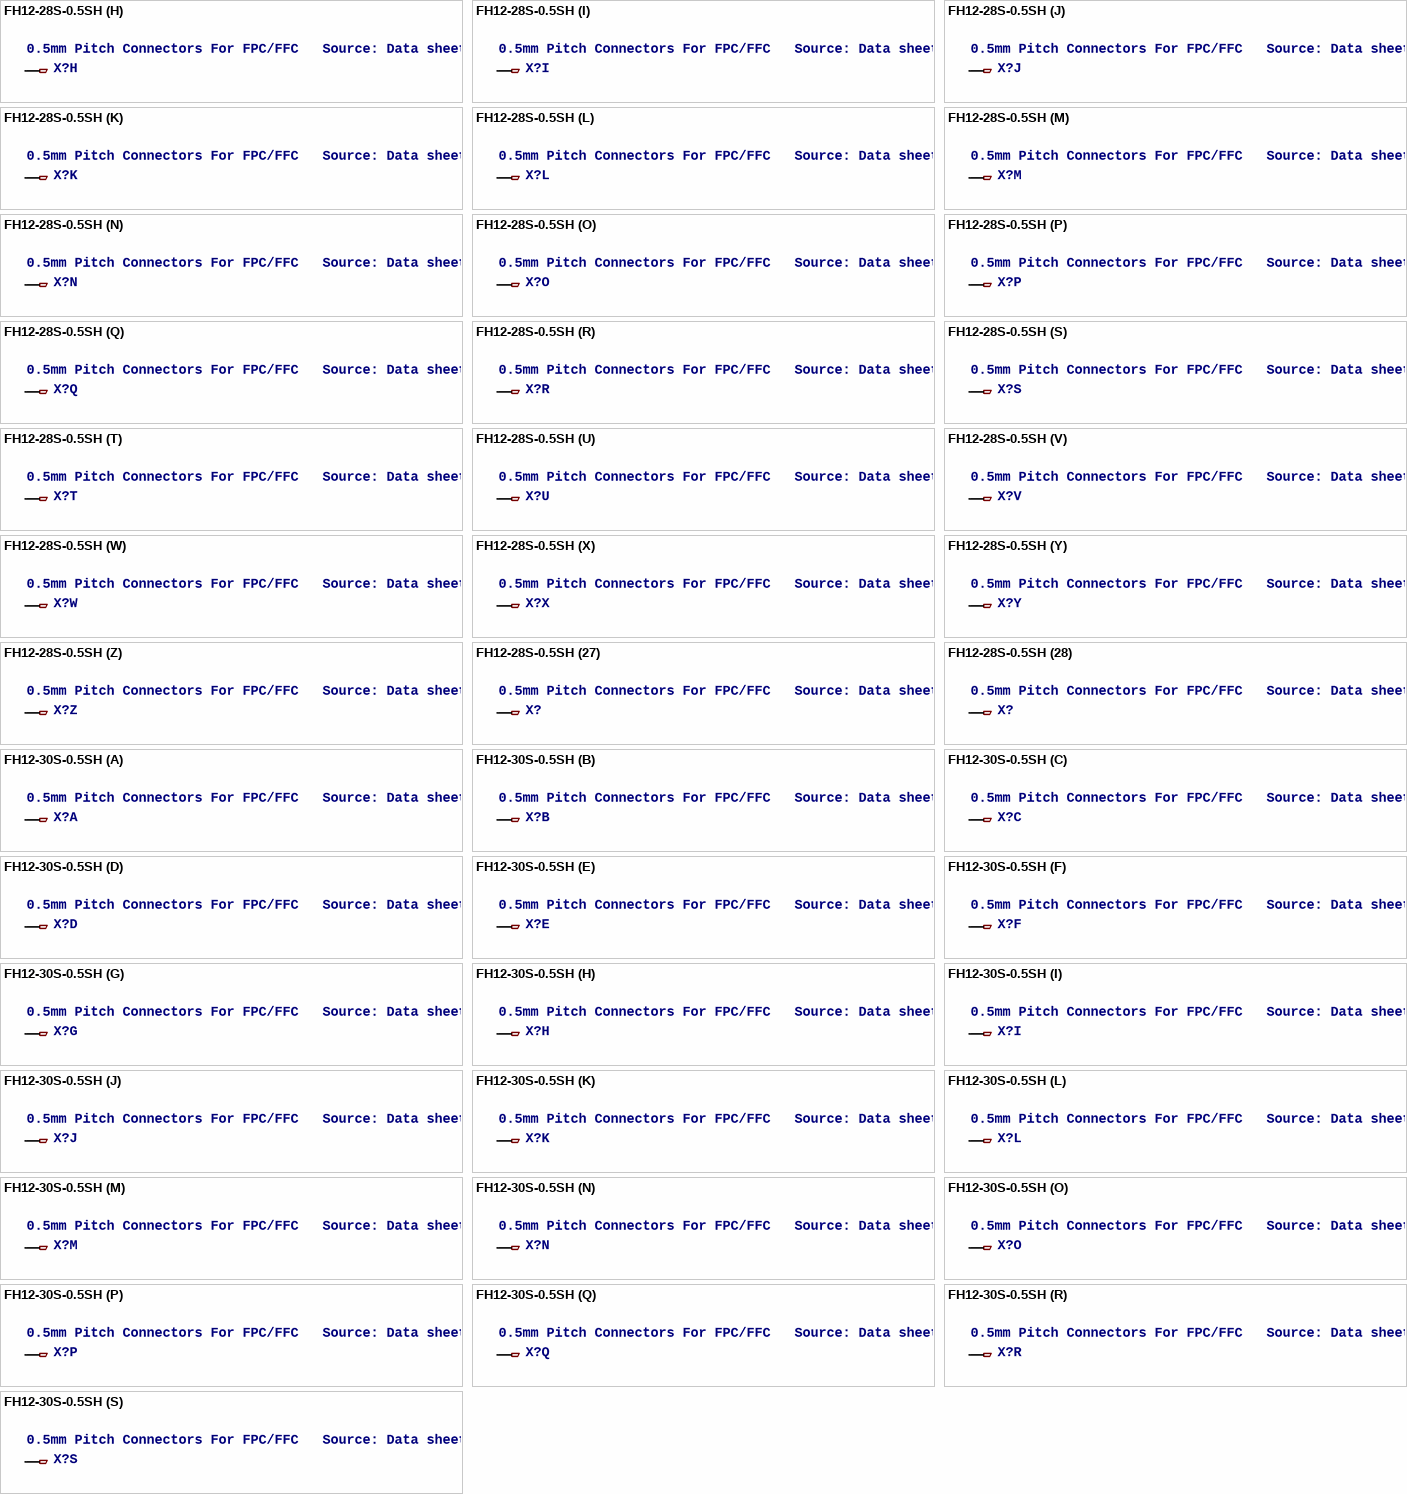
[diagram p9: symbols FH12-28S-0.5SH to FH12-30S-0.5SH]

## FH12-28S-0.5SH
designator X?, comment 0.5mm Pitch Connectors For FPC/FFC   Source: Data sheet
MPN: FH12-28S-0.5SH(55); OC_FARNELL: 1324554; OC_NEWARK: 34M6174
footprint FH12-28S-0.5SH
part A pins: 1
part B pins: 2 1
part C pins: 3 1
part D pins: 4 1
part E pins: 5 1
part F pins: 6 1
part G pins: 7 1
part H pins: 8 1
part I pins: 9 1
part J pins: 10 1
part K pins: 11 1
part L pins: 12 1
part M pins: 13 1
part N pins: 14 1
part O pins: 15 1
part P pins: 16 1
part Q pins: 17 1
part R pins: 18 1
part S pins: 19 1
part T pins: 20 1
part U pins: 21 1
part V pins: 22 1
part W pins: 23 1
part X pins: 24 1
part Y pins: 25 1
part Z pins: 26 1
part 27 pins: 27 1
part 28 pins: 28 1

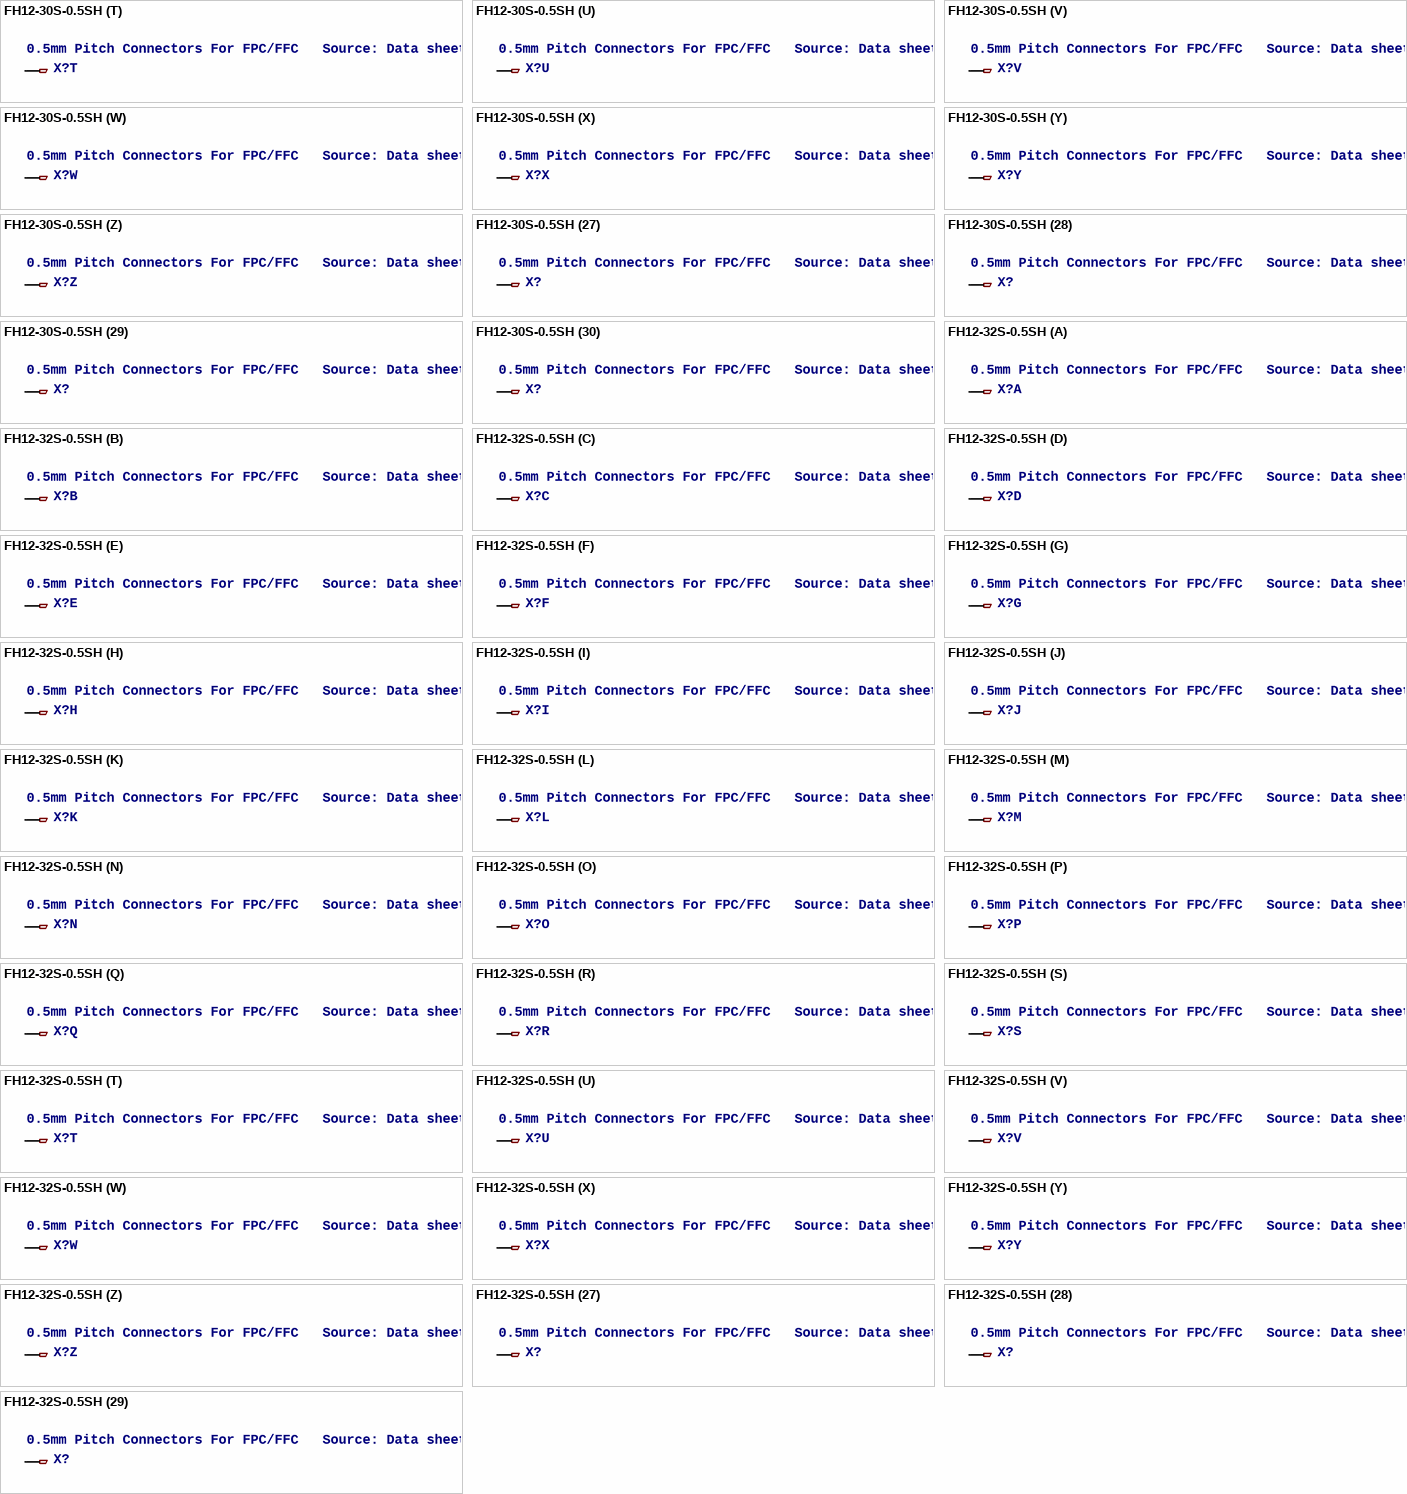
[diagram p10: symbols FH12-30S-0.5SH to FH12-32S-0.5SH]

## FH12-30S-0.5SH
designator X?, comment 0.5mm Pitch Connectors For FPC/FFC   Source: Data sheet
MPN: FH12-30S-0.5SH(55); OC_FARNELL: 1324555; OC_NEWARK: 34M6176
footprint FH12-30S-0.5SH
part A pins: 1
part B pins: 2 1
part C pins: 3 1
part D pins: 4 1
part E pins: 5 1
part F pins: 6 1
part G pins: 7 1
part H pins: 8 1
part I pins: 9 1
part J pins: 10 1
part K pins: 11 1
part L pins: 12 1
part M pins: 13 1
part N pins: 14 1
part O pins: 15 1
part P pins: 16 1
part Q pins: 17 1
part R pins: 18 1
part S pins: 19 1
part T pins: 20 1
part U pins: 21 1
part V pins: 22 1
part W pins: 23 1
part X pins: 24 1
part Y pins: 25 1
part Z pins: 26 1
part 27 pins: 27 1
part 28 pins: 28 1
part 29 pins: 29 1
part 30 pins: 30 1

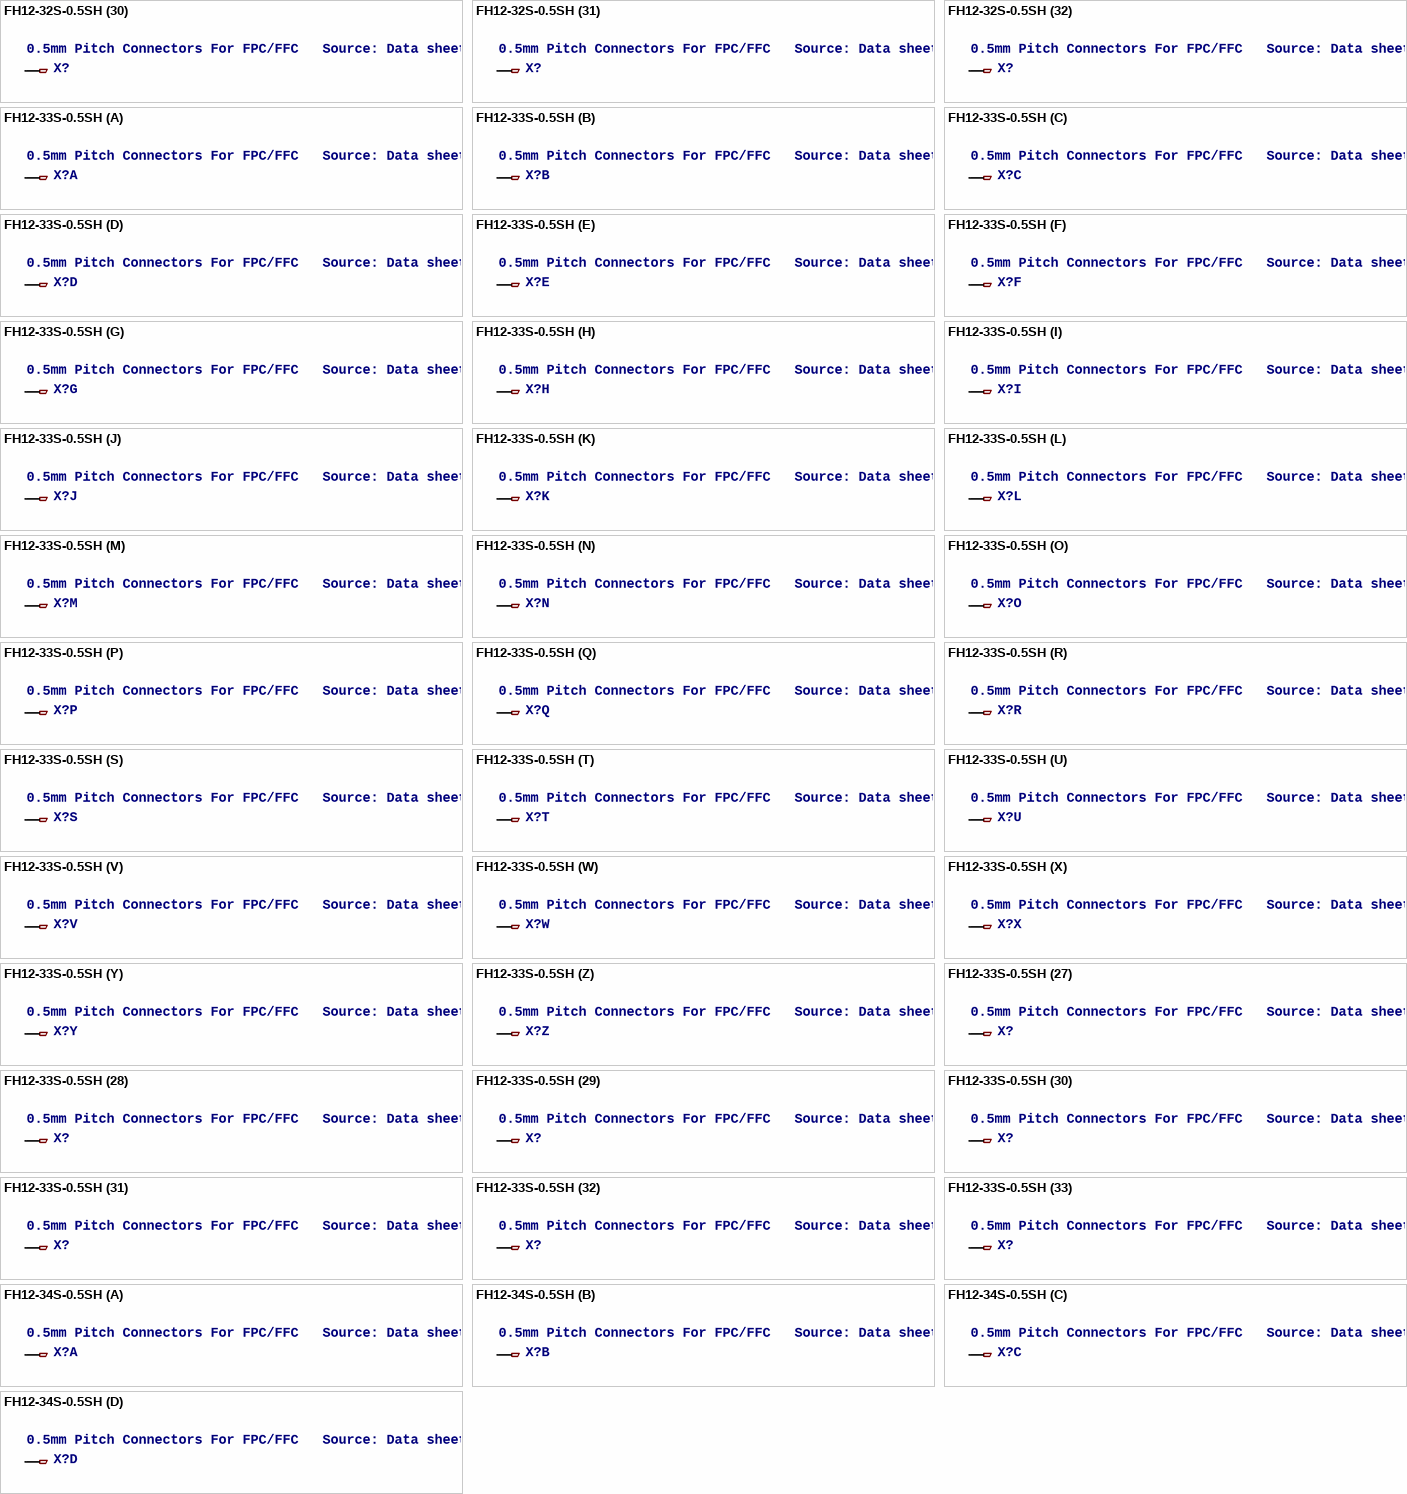
[diagram p11: symbols FH12-32S-0.5SH to FH12-34S-0.5SH]

## FH12-32S-0.5SH
designator X?, comment 0.5mm Pitch Connectors For FPC/FFC   Source: Data sheet
OC_FARNELL: unknown; OC_NEWARK: unknown
footprint FH12-32S-0.5SH
part A pins: 1
part B pins: 2 1
part C pins: 3 1
part D pins: 4 1
part E pins: 5 1
part F pins: 6 1
part G pins: 7 1
part H pins: 8 1
part I pins: 9 1
part J pins: 10 1
part K pins: 11 1
part L pins: 12 1
part M pins: 13 1
part N pins: 14 1
part O pins: 15 1
part P pins: 16 1
part Q pins: 17 1
part R pins: 18 1
part S pins: 19 1
part T pins: 20 1
part U pins: 21 1
part V pins: 22 1
part W pins: 23 1
part X pins: 24 1
part Y pins: 25 1
part Z pins: 26 1
part 27 pins: 27 1
part 28 pins: 28 1
part 29 pins: 29 1
part 30 pins: 30 1
part 31 pins: 31 1
part 32 pins: 32 1

## FH12-33S-0.5SH
designator X?, comment 0.5mm Pitch Connectors For FPC/FFC   Source: Data sheet
OC_FARNELL: unknown; OC_NEWARK: unknown
footprint FH12-33S-0.5SH
part A pins: 1
part B pins: 2 1
part C pins: 3 1
part D pins: 4 1
part E pins: 5 1
part F pins: 6 1
part G pins: 7 1
part H pins: 8 1
part I pins: 9 1
part J pins: 10 1
part K pins: 11 1
part L pins: 12 1
part M pins: 13 1
part N pins: 14 1
part O pins: 15 1
part P pins: 16 1
part Q pins: 17 1
part R pins: 18 1
part S pins: 19 1
part T pins: 20 1
part U pins: 21 1
part V pins: 22 1
part W pins: 23 1
part X pins: 24 1
part Y pins: 25 1
part Z pins: 26 1
part 27 pins: 27 1
part 28 pins: 28 1
part 29 pins: 29 1
part 30 pins: 30 1
part 31 pins: 31 1
part 32 pins: 32 1
part 33 pins: 33 1

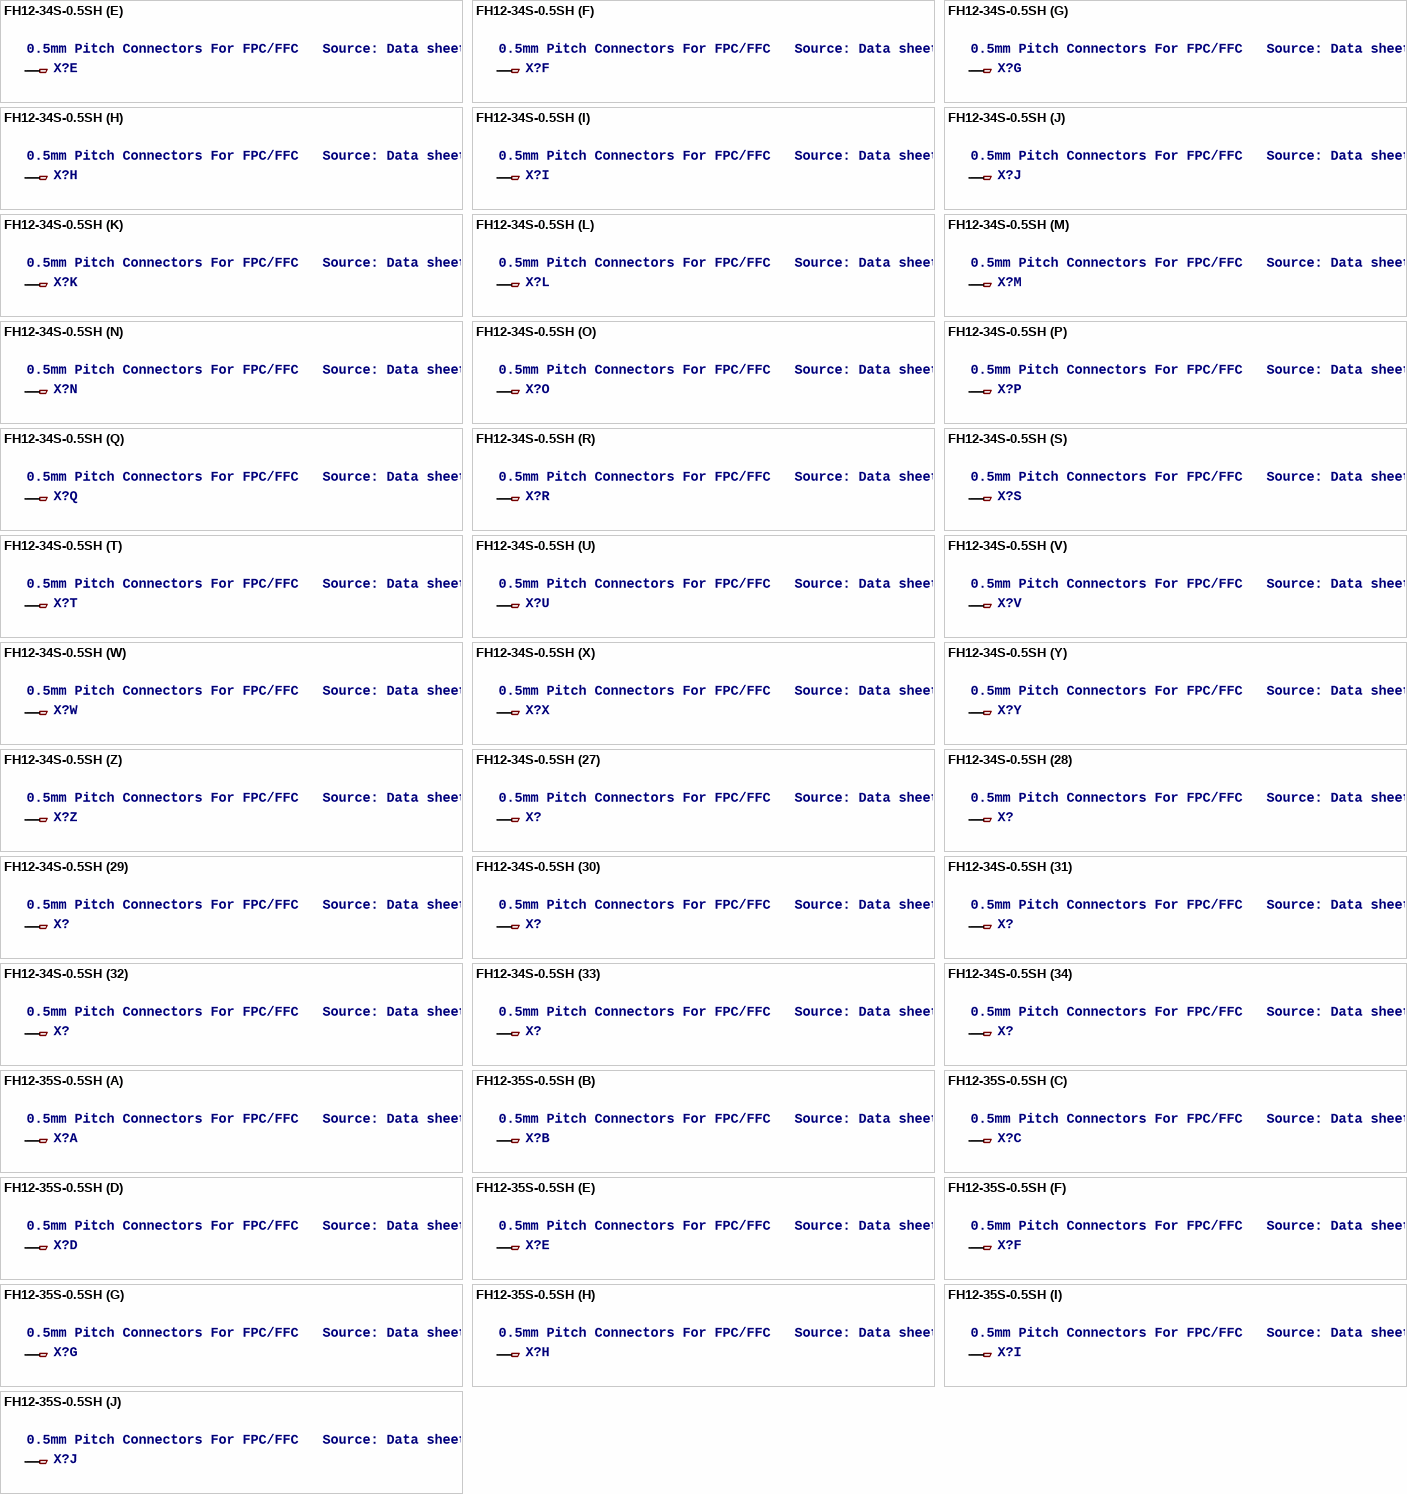
[diagram p12: symbols FH12-34S-0.5SH to FH12-35S-0.5SH]

## FH12-34S-0.5SH
designator X?, comment 0.5mm Pitch Connectors For FPC/FFC   Source: Data sheet
OC_FARNELL: unknown; OC_NEWARK: unknown
footprint FH12-34S-0.5SH
part A pins: 1
part B pins: 2 1
part C pins: 3 1
part D pins: 4 1
part E pins: 5 1
part F pins: 6 1
part G pins: 7 1
part H pins: 8 1
part I pins: 9 1
part J pins: 10 1
part K pins: 11 1
part L pins: 12 1
part M pins: 13 1
part N pins: 14 1
part O pins: 15 1
part P pins: 16 1
part Q pins: 17 1
part R pins: 18 1
part S pins: 19 1
part T pins: 20 1
part U pins: 21 1
part V pins: 22 1
part W pins: 23 1
part X pins: 24 1
part Y pins: 25 1
part Z pins: 26 1
part 27 pins: 27 1
part 28 pins: 28 1
part 29 pins: 29 1
part 30 pins: 30 1
part 31 pins: 31 1
part 32 pins: 32 1
part 33 pins: 33 1
part 34 pins: 34 1

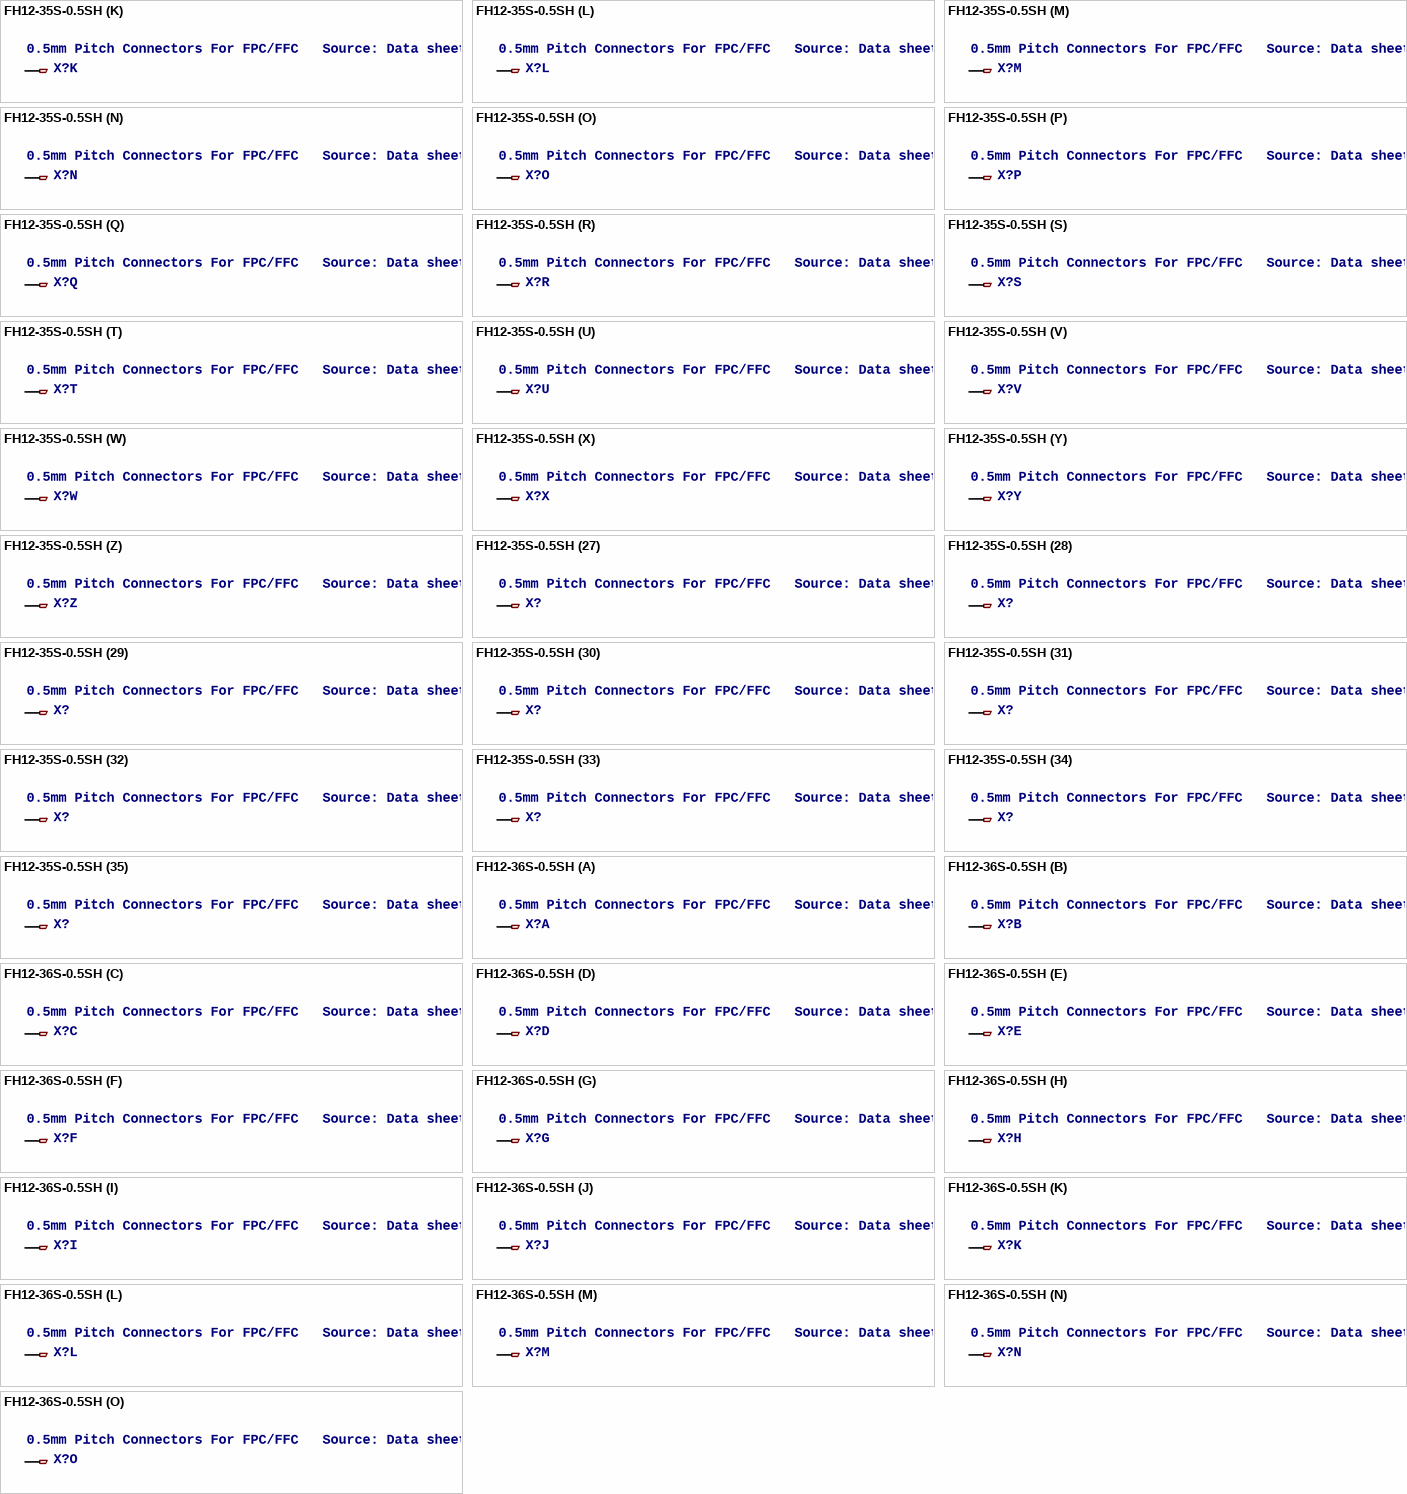
[diagram p13: symbols FH12-35S-0.5SH to FH12-36S-0.5SH]

## FH12-35S-0.5SH
designator X?, comment 0.5mm Pitch Connectors For FPC/FFC   Source: Data sheet
OC_FARNELL: unknown; OC_NEWARK: unknown
footprint FH12-35S-0.5SH
part A pins: 1
part B pins: 2 1
part C pins: 3 1
part D pins: 4 1
part E pins: 5 1
part F pins: 6 1
part G pins: 7 1
part H pins: 8 1
part I pins: 9 1
part J pins: 10 1
part K pins: 11 1
part L pins: 12 1
part M pins: 13 1
part N pins: 14 1
part O pins: 15 1
part P pins: 16 1
part Q pins: 17 1
part R pins: 18 1
part S pins: 19 1
part T pins: 20 1
part U pins: 21 1
part V pins: 22 1
part W pins: 23 1
part X pins: 24 1
part Y pins: 25 1
part Z pins: 26 1
part 27 pins: 27 1
part 28 pins: 28 1
part 29 pins: 29 1
part 30 pins: 30 1
part 31 pins: 31 1
part 32 pins: 32 1
part 33 pins: 33 1
part 34 pins: 34 1
part 35 pins: 35 1

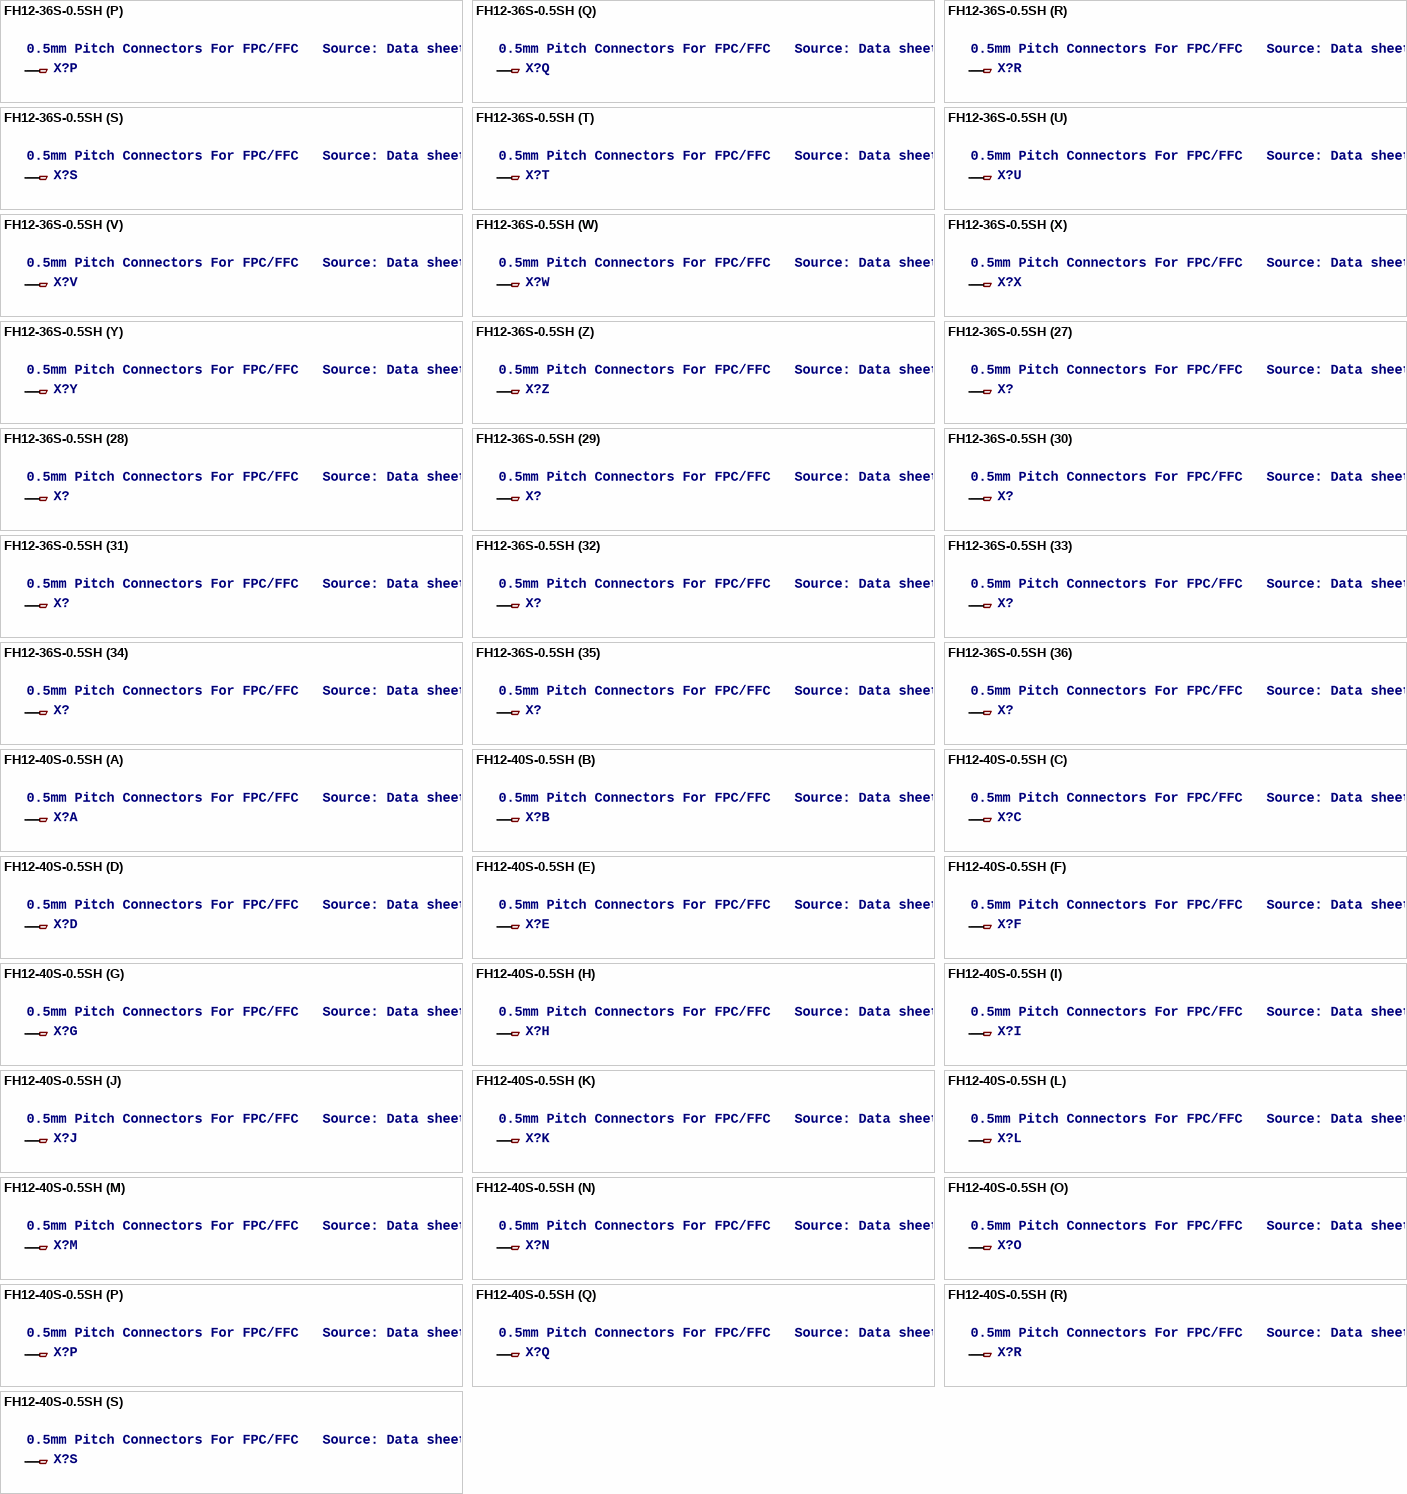
[diagram p14: symbols FH12-36S-0.5SH to FH12-40S-0.5SH]

## FH12-36S-0.5SH
designator X?, comment 0.5mm Pitch Connectors For FPC/FFC   Source: Data sheet
OC_FARNELL: unknown; OC_NEWARK: unknown
footprint FH12-36S-0.5SH
part A pins: 1
part B pins: 2 1
part C pins: 3 1
part D pins: 4 1
part E pins: 5 1
part F pins: 6 1
part G pins: 7 1
part H pins: 8 1
part I pins: 9 1
part J pins: 10 1
part K pins: 11 1
part L pins: 12 1
part M pins: 13 1
part N pins: 14 1
part O pins: 15 1
part P pins: 16 1
part Q pins: 17 1
part R pins: 18 1
part S pins: 19 1
part T pins: 20 1
part U pins: 21 1
part V pins: 22 1
part W pins: 23 1
part X pins: 24 1
part Y pins: 25 1
part Z pins: 26 1
part 27 pins: 27 1
part 28 pins: 28 1
part 29 pins: 29 1
part 30 pins: 30 1
part 31 pins: 31 1
part 32 pins: 32 1
part 33 pins: 33 1
part 34 pins: 34 1
part 35 pins: 35 1
part 36 pins: 36 1

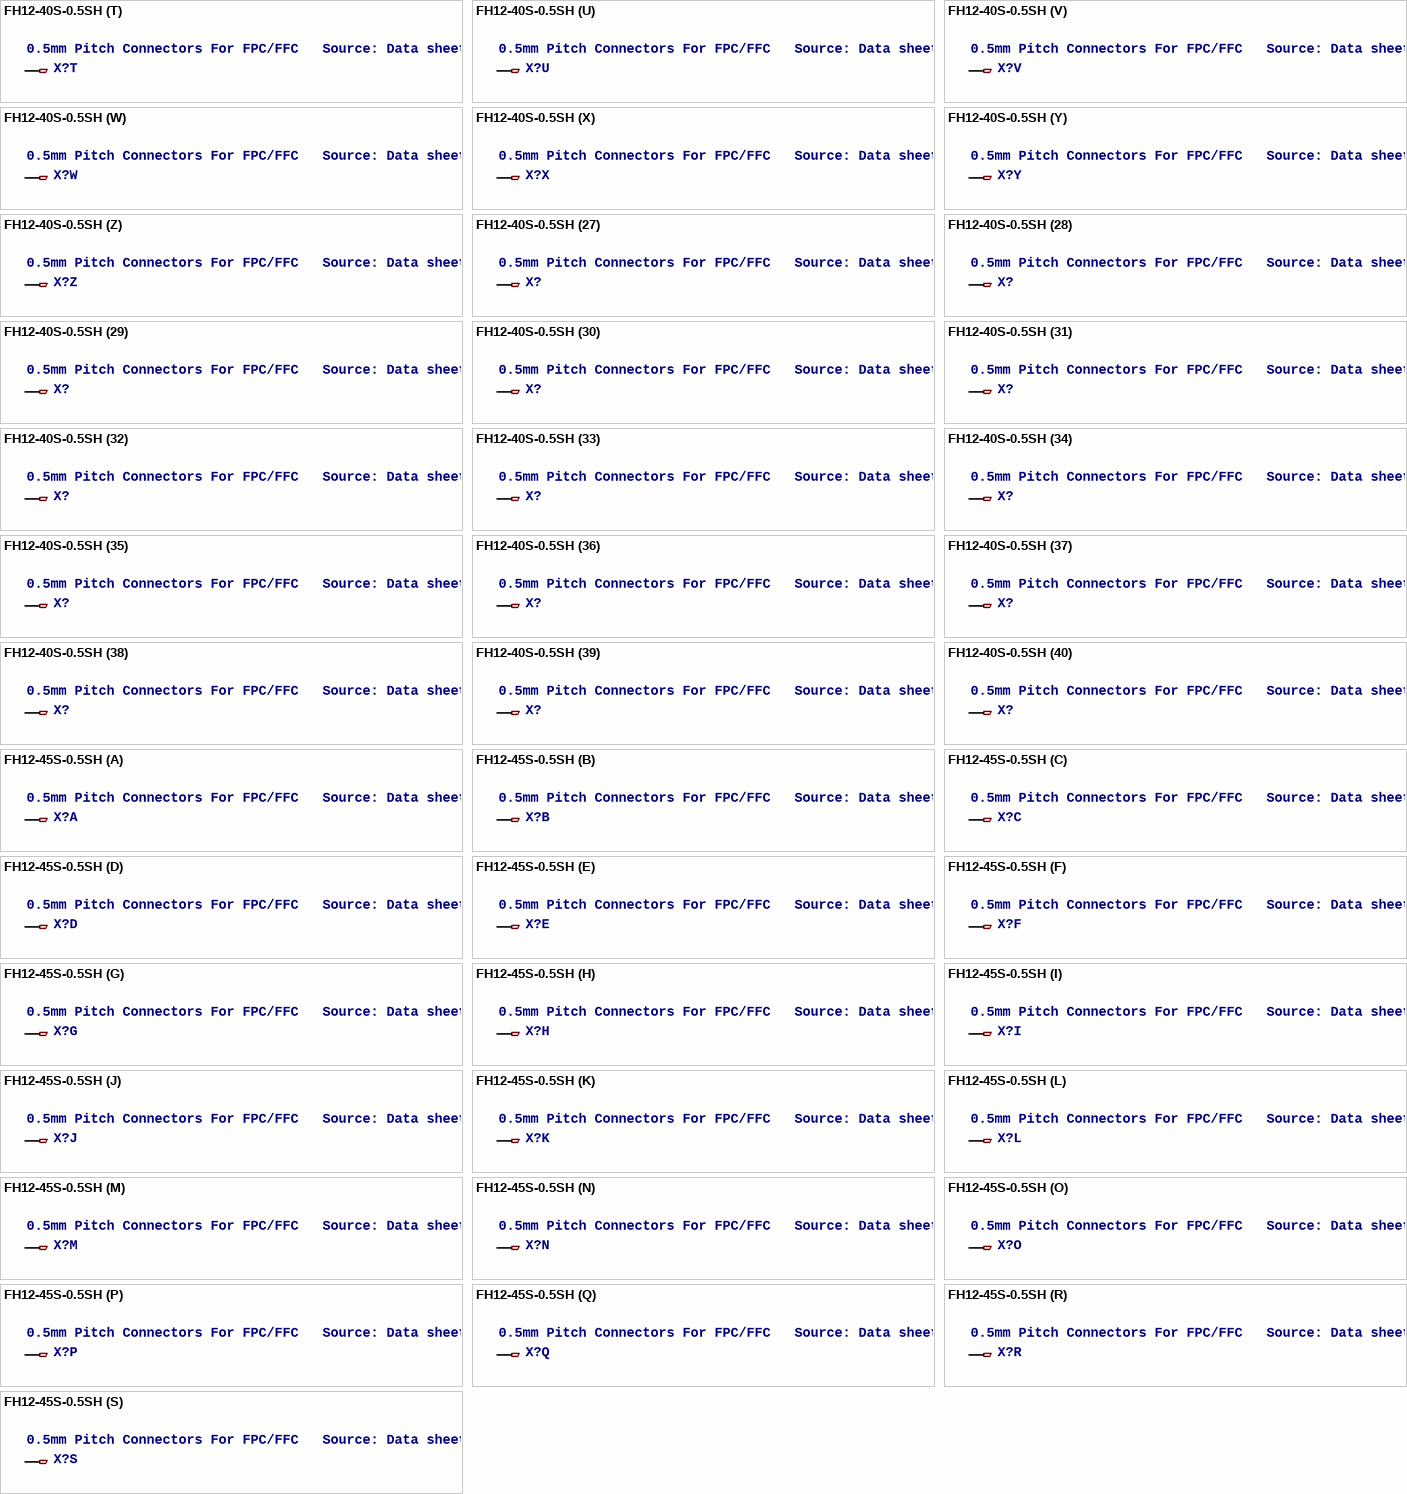
[diagram p15: symbols FH12-40S-0.5SH to FH12-45S-0.5SH]

## FH12-40S-0.5SH
designator X?, comment 0.5mm Pitch Connectors For FPC/FFC   Source: Data sheet
MPN: FH12-40S-0.5SH(55); OC_FARNELL: 1324556; OC_NEWARK: 34M6178
footprint FH12-40S-0.5SH
part A pins: 1
part B pins: 2 1
part C pins: 3 1
part D pins: 4 1
part E pins: 5 1
part F pins: 6 1
part G pins: 7 1
part H pins: 8 1
part I pins: 9 1
part J pins: 10 1
part K pins: 11 1
part L pins: 12 1
part M pins: 13 1
part N pins: 14 1
part O pins: 15 1
part P pins: 16 1
part Q pins: 17 1
part R pins: 18 1
part S pins: 19 1
part T pins: 20 1
part U pins: 21 1
part V pins: 22 1
part W pins: 23 1
part X pins: 24 1
part Y pins: 25 1
part Z pins: 26 1
part 27 pins: 27 1
part 28 pins: 28 1
part 29 pins: 29 1
part 30 pins: 30 1
part 31 pins: 31 1
part 32 pins: 32 1
part 33 pins: 33 1
part 34 pins: 34 1
part 35 pins: 35 1
part 36 pins: 36 1
part 37 pins: 37 1
part 38 pins: 38 1
part 39 pins: 39 1
part 40 pins: 40 1

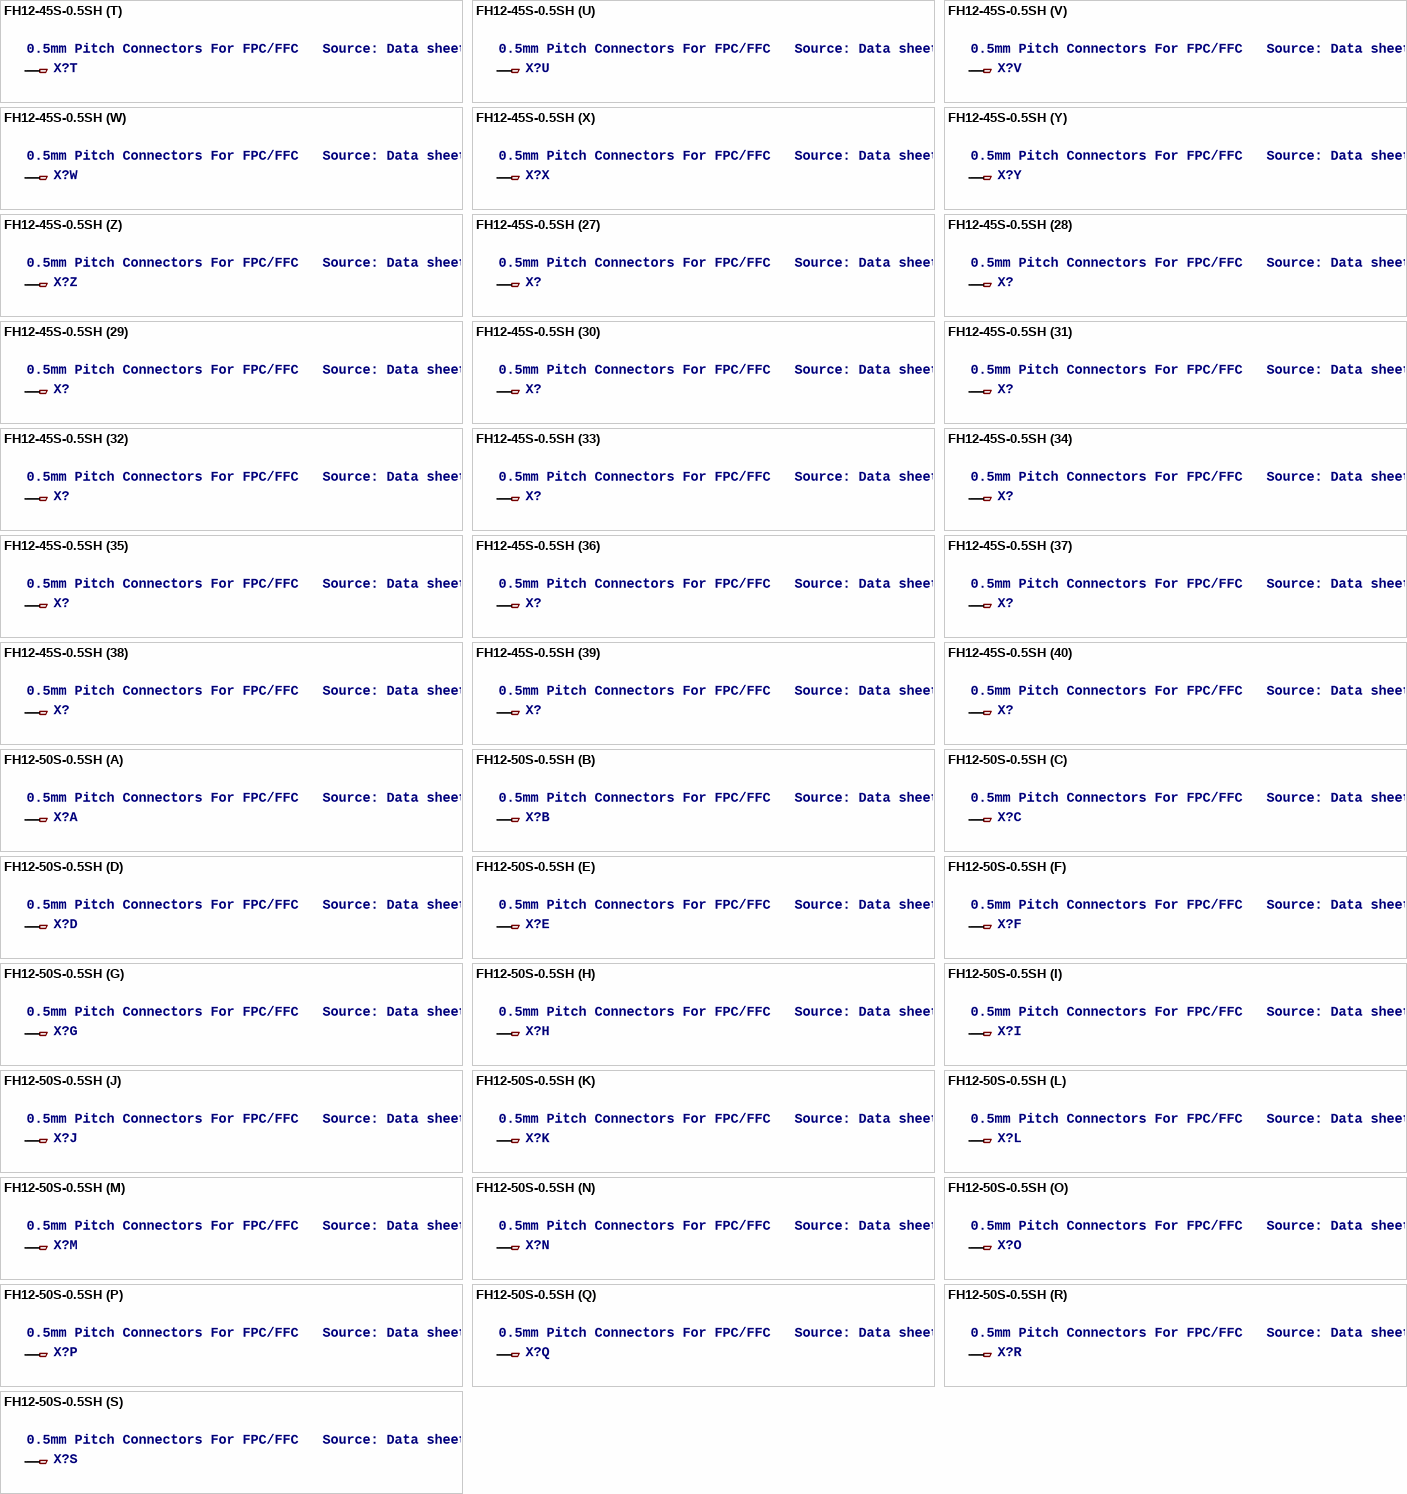
[diagram p16: symbols FH12-45S-0.5SH to FH12-50S-0.5SH]

## FH12-45S-0.5SH
designator X?, comment 0.5mm Pitch Connectors For FPC/FFC   Source: Data sheet
OC_FARNELL: unknown; OC_NEWARK: unknown
footprint FH12-45S-0.5SH
part A pins: 1
part B pins: 2 1
part C pins: 3 1
part D pins: 4 1
part E pins: 5 1
part F pins: 6 1
part G pins: 7 1
part H pins: 8 1
part I pins: 9 1
part J pins: 10 1
part K pins: 11 1
part L pins: 12 1
part M pins: 13 1
part N pins: 14 1
part O pins: 15 1
part P pins: 16 1
part Q pins: 17 1
part R pins: 18 1
part S pins: 19 1
part T pins: 20 1
part U pins: 21 1
part V pins: 22 1
part W pins: 23 1
part X pins: 24 1
part Y pins: 25 1
part Z pins: 26 1
part 27 pins: 27 1
part 28 pins: 28 1
part 29 pins: 29 1
part 30 pins: 30 1
part 31 pins: 31 1
part 32 pins: 32 1
part 33 pins: 33 1
part 34 pins: 34 1
part 35 pins: 35 1
part 36 pins: 36 1
part 37 pins: 37 1
part 38 pins: 38 1
part 39 pins: 39 1
part 40 pins: 40 1
part 41 pins: 41 1
part 42 pins: 42 1
part 43 pins: 43 1
part 44 pins: 44 1
part 45 pins: 45 1

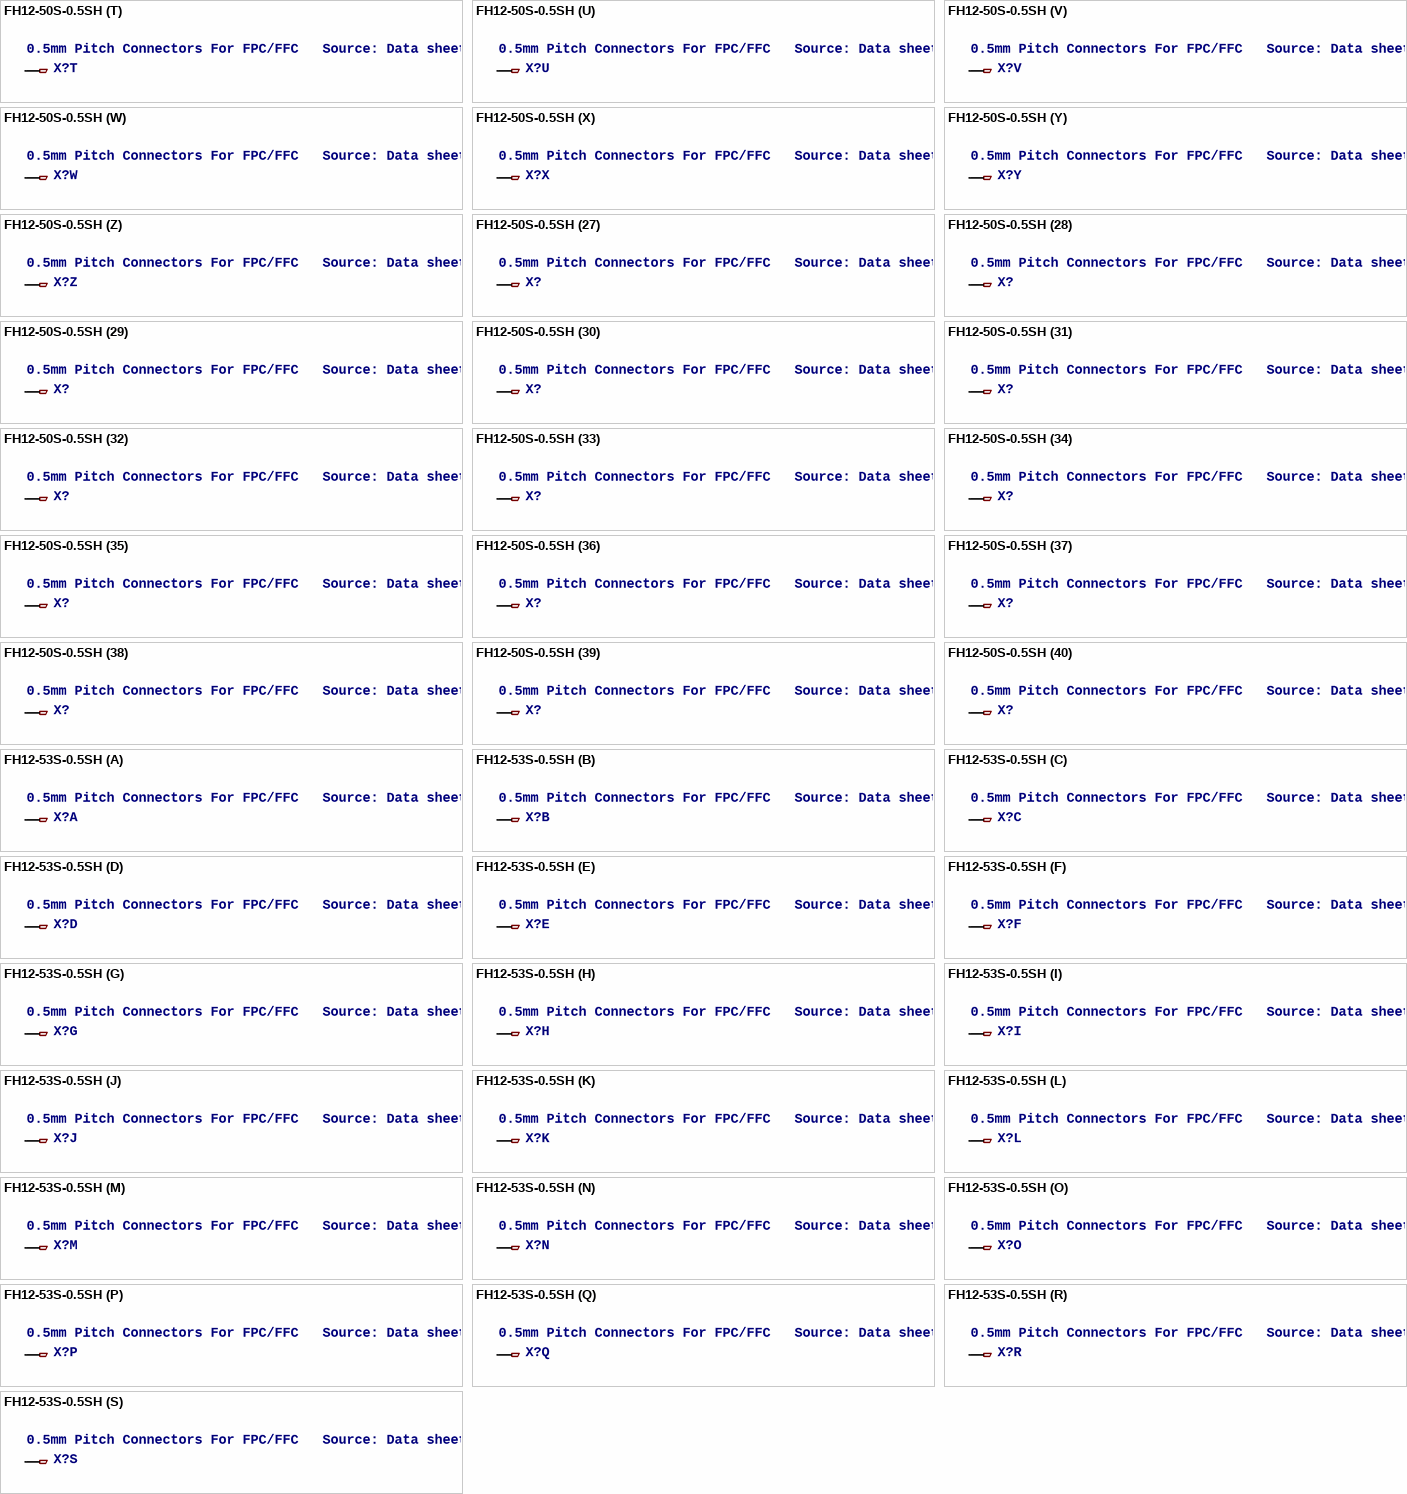
[diagram p17: symbols FH12-50S-0.5SH to FH12-53S-0.5SH]

## FH12-50S-0.5SH
designator X?, comment 0.5mm Pitch Connectors For FPC/FFC   Source: Data sheet
MPN: FH12-50S-0.5SH(55); OC_FARNELL: 1324557; OC_NEWARK: 34M6181
footprint FH12-50S-0.5SH
part A pins: 1
part B pins: 2 1
part C pins: 3 1
part D pins: 4 1
part E pins: 5 1
part F pins: 6 1
part G pins: 7 1
part H pins: 8 1
part I pins: 9 1
part J pins: 10 1
part K pins: 11 1
part L pins: 12 1
part M pins: 13 1
part N pins: 14 1
part O pins: 15 1
part P pins: 16 1
part Q pins: 17 1
part R pins: 18 1
part S pins: 19 1
part T pins: 20 1
part U pins: 21 1
part V pins: 22 1
part W pins: 23 1
part X pins: 24 1
part Y pins: 25 1
part Z pins: 26 1
part 27 pins: 27 1
part 28 pins: 28 1
part 29 pins: 29 1
part 30 pins: 30 1
part 31 pins: 31 1
part 32 pins: 32 1
part 33 pins: 33 1
part 34 pins: 34 1
part 35 pins: 35 1
part 36 pins: 36 1
part 37 pins: 37 1
part 38 pins: 38 1
part 39 pins: 39 1
part 40 pins: 40 1
part 41 pins: 41 1
part 42 pins: 42 1
part 43 pins: 43 1
part 44 pins: 44 1
part 45 pins: 45 1
part 46 pins: 46 1
part 47 pins: 47 1
part 48 pins: 48 1
part 49 pins: 49 1
part 50 pins: 50 1

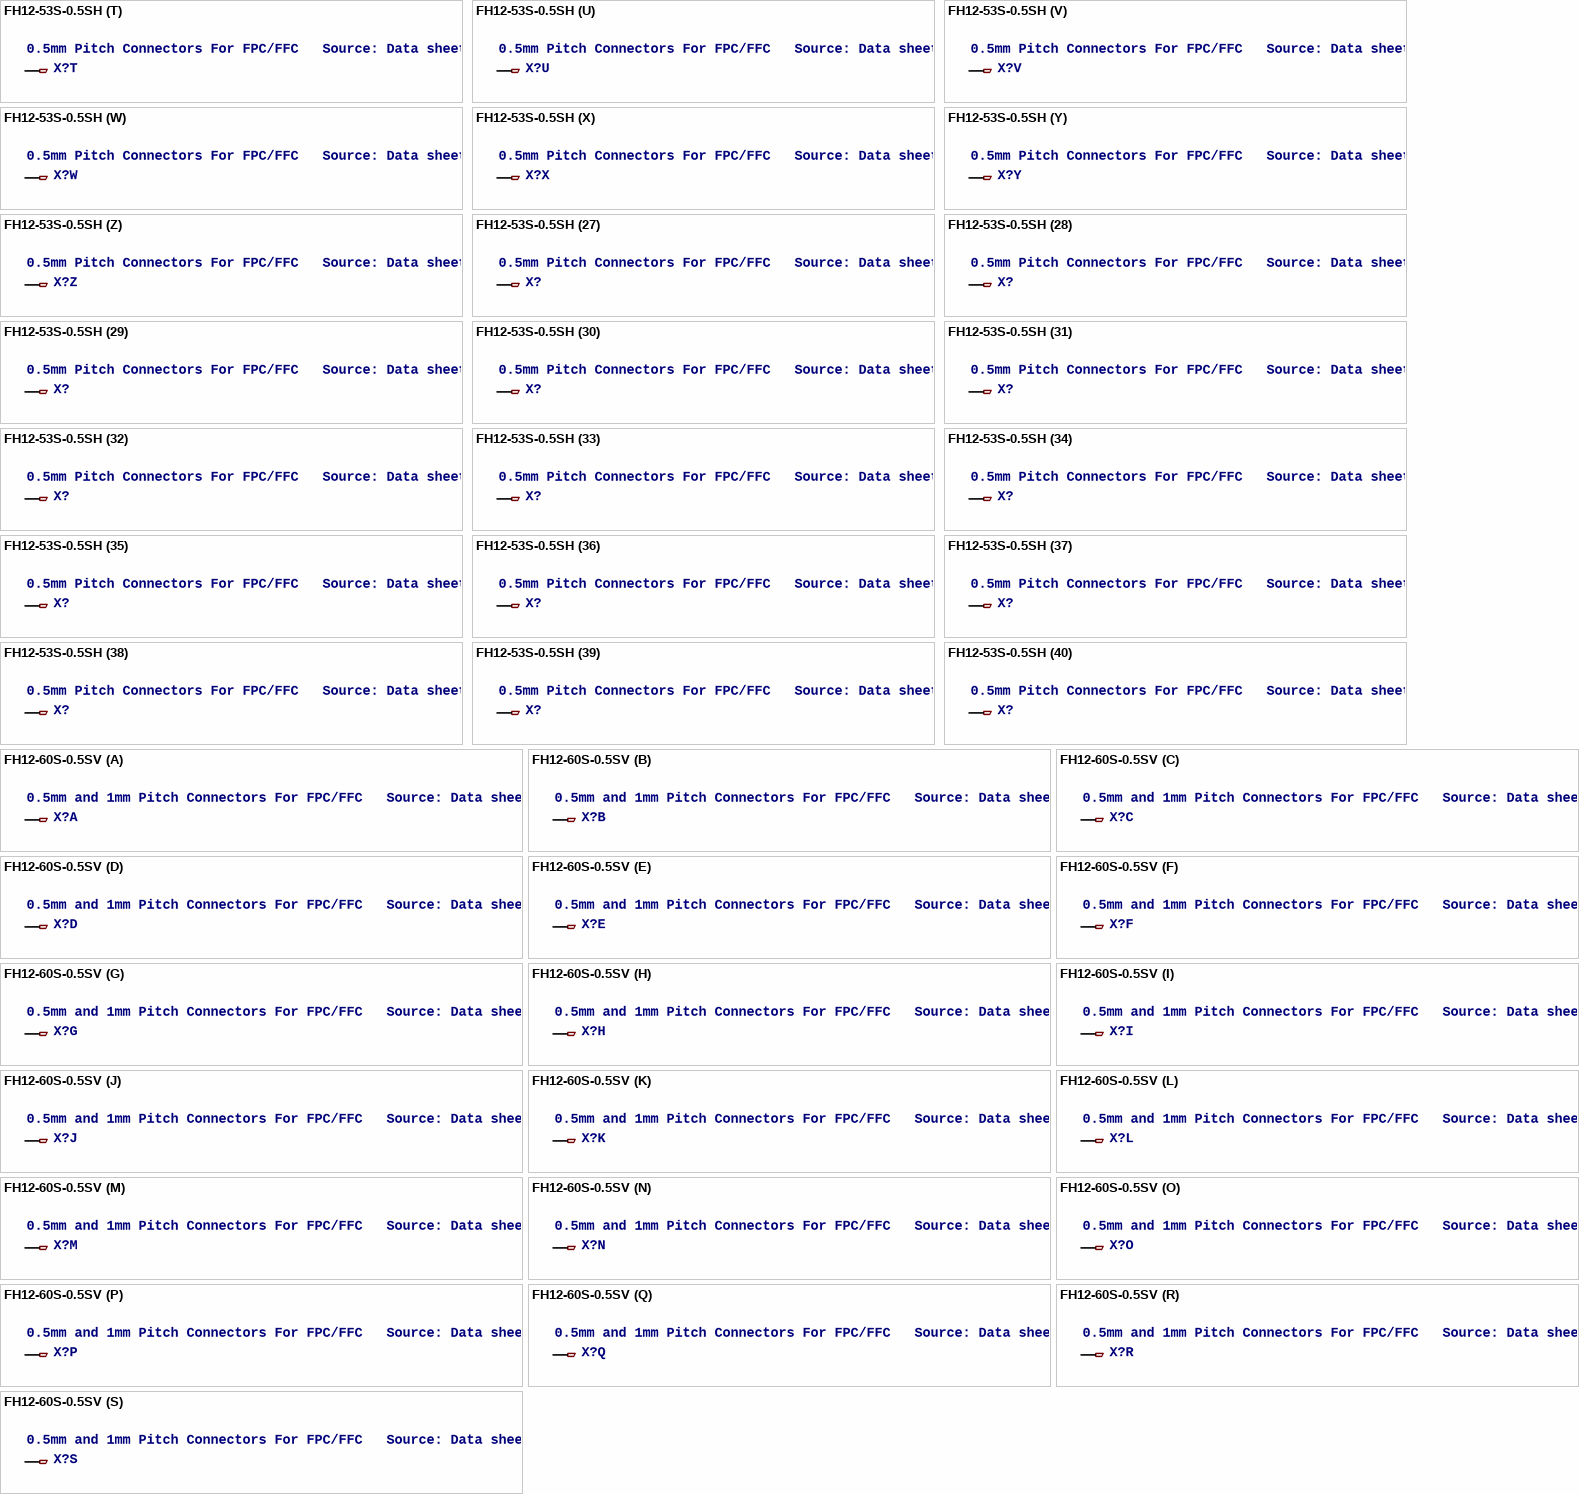
[diagram p18: symbols FH12-53S-0.5SH to FH12-60S-0.5SV]

## FH12-53S-0.5SH
designator X?, comment 0.5mm Pitch Connectors For FPC/FFC   Source: Data sheet
OC_FARNELL: unknown; OC_NEWARK: unknown
footprint FH12-53S-0.5SH
part A pins: 1
part B pins: 2 1
part C pins: 3 1
part D pins: 4 1
part E pins: 5 1
part F pins: 6 1
part G pins: 7 1
part H pins: 8 1
part I pins: 9 1
part J pins: 10 1
part K pins: 11 1
part L pins: 12 1
part M pins: 13 1
part N pins: 14 1
part O pins: 15 1
part P pins: 16 1
part Q pins: 17 1
part R pins: 18 1
part S pins: 19 1
part T pins: 20 1
part U pins: 21 1
part V pins: 22 1
part W pins: 23 1
part X pins: 24 1
part Y pins: 25 1
part Z pins: 26 1
part 27 pins: 27 1
part 28 pins: 28 1
part 29 pins: 29 1
part 30 pins: 30 1
part 31 pins: 31 1
part 32 pins: 32 1
part 33 pins: 33 1
part 34 pins: 34 1
part 35 pins: 35 1
part 36 pins: 36 1
part 37 pins: 37 1
part 38 pins: 38 1
part 39 pins: 39 1
part 40 pins: 40 1
part 41 pins: 41 1
part 42 pins: 42 1
part 43 pins: 43 1
part 44 pins: 44 1
part 45 pins: 45 1
part 46 pins: 46 1
part 47 pins: 47 1
part 48 pins: 48 1
part 49 pins: 49 1
part 50 pins: 50 1
part 51 pins: 51 1
part 52 pins: 52 1
part 53 pins: 53 1

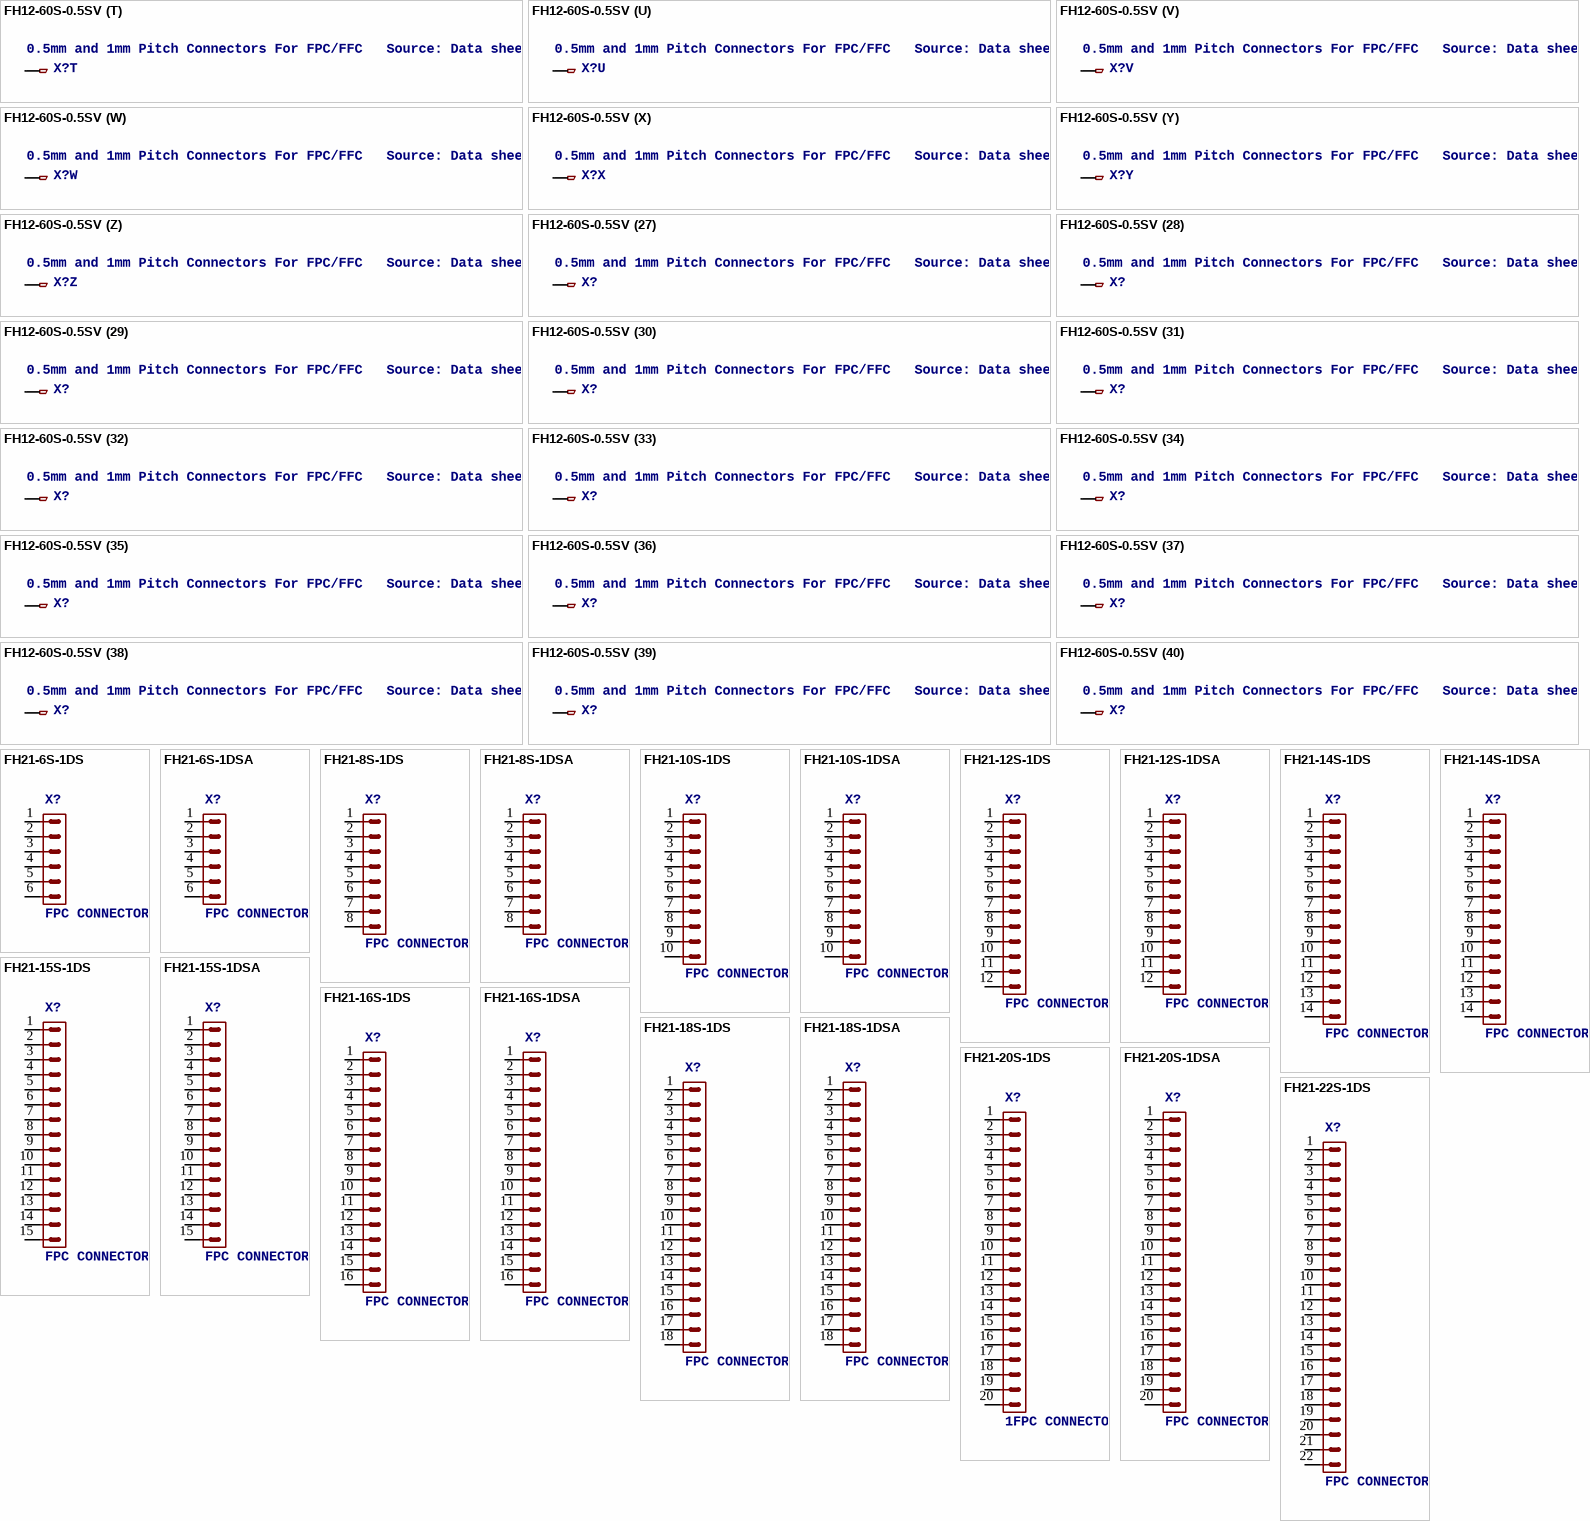
[diagram p19: symbols FH12-60S-0.5SV to FH21-22S-1DS]

## FH12-60S-0.5SV
designator X?, comment 0.5mm and 1mm Pitch Connectors For FPC/FFC   Source: Data sheet
OC_FARNELL: unknown; OC_NEWARK: unknown
footprint FH12-60S-0.5SV
part A pins: 1
part B pins: 2 1
part C pins: 3 1
part D pins: 4 1
part E pins: 5 1
part F pins: 6 1
part G pins: 7 1
part H pins: 8 1
part I pins: 9 1
part J pins: 10 1
part K pins: 11 1
part L pins: 12 1
part M pins: 13 1
part N pins: 14 1
part O pins: 15 1
part P pins: 16 1
part Q pins: 17 1
part R pins: 18 1
part S pins: 19 1
part T pins: 20 1
part U pins: 21 1
part V pins: 22 1
part W pins: 23 1
part X pins: 24 1
part Y pins: 25 1
part Z pins: 26 1
part 27 pins: 27 1
part 28 pins: 28 1
part 29 pins: 29 1
part 30 pins: 30 1
part 31 pins: 31 1
part 32 pins: 32 1
part 33 pins: 33 1
part 34 pins: 34 1
part 35 pins: 35 1
part 36 pins: 36 1
part 37 pins: 37 1
part 38 pins: 38 1
part 39 pins: 39 1
part 40 pins: 40 1
part 41 pins: 41 1
part 42 pins: 42 1
part 43 pins: 43 1
part 44 pins: 44 1
part 45 pins: 45 1
part 46 pins: 46 1
part 47 pins: 47 1
part 48 pins: 48 1
part 49 pins: 49 1
part 50 pins: 50 1
part 51 pins: 51 1
part 52 pins: 52 1
part 53 pins: 53 1
part 54 pins: 54 1
part 55 pins: 55 1
part 56 pins: 56 1
part 57 pins: 57 1
part 58 pins: 58 1
part 59 pins: 59 1
part 60 pins: 60 1

## FH21-6S-1DS
designator X?, comment FPC CONNECTOR   Source: con-hirose.lbr from Bob Starr <rtzaudio@mindspring.com>
OC_FARNELL: unknown; OC_NEWARK: unknown
footprint FH21-6S-1DS
pins: 1, 2, 3, 4, 5, 6

## FH21-6S-1DSA
designator X?, comment FPC CONNECTOR   Source: con-hirose.lbr from Bob Starr <rtzaudio@mindspring.com>
OC_FARNELL: unknown; OC_NEWARK: unknown
footprint FH21-6S-1DSA
pins: 1, 2, 3, 4, 5, 6

## FH21-8S-1DS
designator X?, comment FPC CONNECTOR   Source: con-hirose.lbr from Bob Starr <rtzaudio@mindspring.com>
OC_FARNELL: unknown; OC_NEWARK: unknown
footprint FH21-8S-1DS
pins: 1, 2, 3, 4, 5, 6, 7, 8

## FH21-8S-1DSA
designator X?, comment FPC CONNECTOR   Source: con-hirose.lbr from Bob Starr <rtzaudio@mindspring.com>
OC_FARNELL: unknown; OC_NEWARK: unknown
footprint FH21-8S-1DSA
pins: 1, 2, 3, 4, 5, 6, 7, 8

## FH21-10S-1DS
designator X?, comment FPC CONNECTOR   Source: con-hirose.lbr from Bob Starr <rtzaudio@mindspring.com>
OC_FARNELL: unknown; OC_NEWARK: unknown
footprint FH21-10S-1DS
pins: 1, 2, 3, 4, 5, 6, 7, 8, 9, 10

## FH21-10S-1DSA
designator X?, comment FPC CONNECTOR   Source: con-hirose.lbr from Bob Starr <rtzaudio@mindspring.com>
OC_FARNELL: unknown; OC_NEWARK: unknown
footprint FH21-10S-1DSA
pins: 1, 2, 3, 4, 5, 6, 7, 8, 9, 10

## FH21-12S-1DS
designator X?, comment FPC CONNECTOR   Source: con-hirose.lbr from Bob Starr <rtzaudio@mindspring.com>
OC_FARNELL: unknown; OC_NEWARK: unknown
footprint FH21-12S-1DS
pins: 1, 2, 3, 4, 5, 6, 7, 8, 9, 10, 11, 12

## FH21-12S-1DSA
designator X?, comment FPC CONNECTOR   Source: con-hirose.lbr from Bob Starr <rtzaudio@mindspring.com>
OC_FARNELL: unknown; OC_NEWARK: unknown
footprint FH21-12S-1DSA
pins: 1, 2, 3, 4, 5, 6, 7, 8, 9, 10, 11, 12

## FH21-14S-1DS
designator X?, comment FPC CONNECTOR   Source: con-hirose.lbr from Bob Starr <rtzaudio@mindspring.com>
OC_FARNELL: unknown; OC_NEWARK: unknown
footprint FH21-14S-1DS
pins: 1, 2, 3, 4, 5, 6, 7, 8, 9, 10, 11, 12, 13, 14

## FH21-14S-1DSA
designator X?, comment FPC CONNECTOR   Source: con-hirose.lbr from Bob Starr <rtzaudio@mindspring.com>
OC_FARNELL: unknown; OC_NEWARK: unknown
footprint FH21-14S-1DSA
pins: 1, 2, 3, 4, 5, 6, 7, 8, 9, 10, 11, 12, 13, 14

## FH21-15S-1DS
designator X?, comment FPC CONNECTOR   Source: con-hirose.lbr from Bob Starr <rtzaudio@mindspring.com>
OC_FARNELL: unknown; OC_NEWARK: unknown
footprint FH21-15S-1DS
pins: 1, 2, 3, 4, 5, 6, 7, 8, 9, 10, 11, 12, 13, 14, 15

## FH21-15S-1DSA
designator X?, comment FPC CONNECTOR   Source: con-hirose.lbr from Bob Starr <rtzaudio@mindspring.com>
OC_FARNELL: unknown; OC_NEWARK: unknown
footprint FH21-15S-1DSA
pins: 1, 2, 3, 4, 5, 6, 7, 8, 9, 10, 11, 12, 13, 14, 15

## FH21-16S-1DS
designator X?, comment FPC CONNECTOR   Source: con-hirose.lbr from Bob Starr <rtzaudio@mindspring.com>
OC_FARNELL: unknown; OC_NEWARK: unknown
footprint FH21-16S-1DS
pins: 1, 2, 3, 4, 5, 6, 7, 8, 9, 10, 11, 12, 13, 14, 15, 16

## FH21-16S-1DSA
designator X?, comment FPC CONNECTOR   Source: con-hirose.lbr from Bob Starr <rtzaudio@mindspring.com>
OC_FARNELL: unknown; OC_NEWARK: unknown
footprint FH21-16S-1DSA
pins: 1, 2, 3, 4, 5, 6, 7, 8, 9, 10, 11, 12, 13, 14, 15, 16

## FH21-18S-1DS
designator X?, comment FPC CONNECTOR   Source: con-hirose.lbr from Bob Starr <rtzaudio@mindspring.com>
OC_FARNELL: unknown; OC_NEWARK: unknown
footprint FH21-18S-1DS
pins: 1, 2, 3, 4, 5, 6, 7, 8, 9, 10, 11, 12, 13, 14, 15, 16, 17, 18

## FH21-18S-1DSA
designator X?, comment FPC CONNECTOR   Source: con-hirose.lbr from Bob Starr <rtzaudio@mindspring.com>
OC_FARNELL: unknown; OC_NEWARK: unknown
footprint FH21-18S-1DSA
pins: 1, 2, 3, 4, 5, 6, 7, 8, 9, 10, 11, 12, 13, 14, 15, 16, 17, 18

## FH21-20S-1DS
designator X?, comment 1FPC CONNECTOR   Source: con-hirose.lbr from Bob Starr <rtzaudio@mindspring.com>
OC_FARNELL: unknown; OC_NEWARK: unknown
footprint FH21-20S-1DS
pins: 1, 2, 3, 4, 5, 6, 7, 8, 9, 10, 11, 12, 13, 14, 15, 16, 17, 18, 19, 20

## FH21-20S-1DSA
designator X?, comment FPC CONNECTOR   Source: con-hirose.lbr from Bob Starr <rtzaudio@mindspring.com>
OC_FARNELL: unknown; OC_NEWARK: unknown
footprint FH21-20S-1DSA
pins: 1, 2, 3, 4, 5, 6, 7, 8, 9, 10, 11, 12, 13, 14, 15, 16, 17, 18, 19, 20

## FH21-22S-1DS
designator X?, comment FPC CONNECTOR   Source: con-hirose.lbr from Bob Starr <rtzaudio@mindspring.com>
OC_FARNELL: unknown; OC_NEWARK: unknown
footprint FH21-22S-1DS
pins: 1, 2, 3, 4, 5, 6, 7, 8, 9, 10, 11, 12, 13, 14, 15, 16, 17, 18, 19, 20, 21, 22

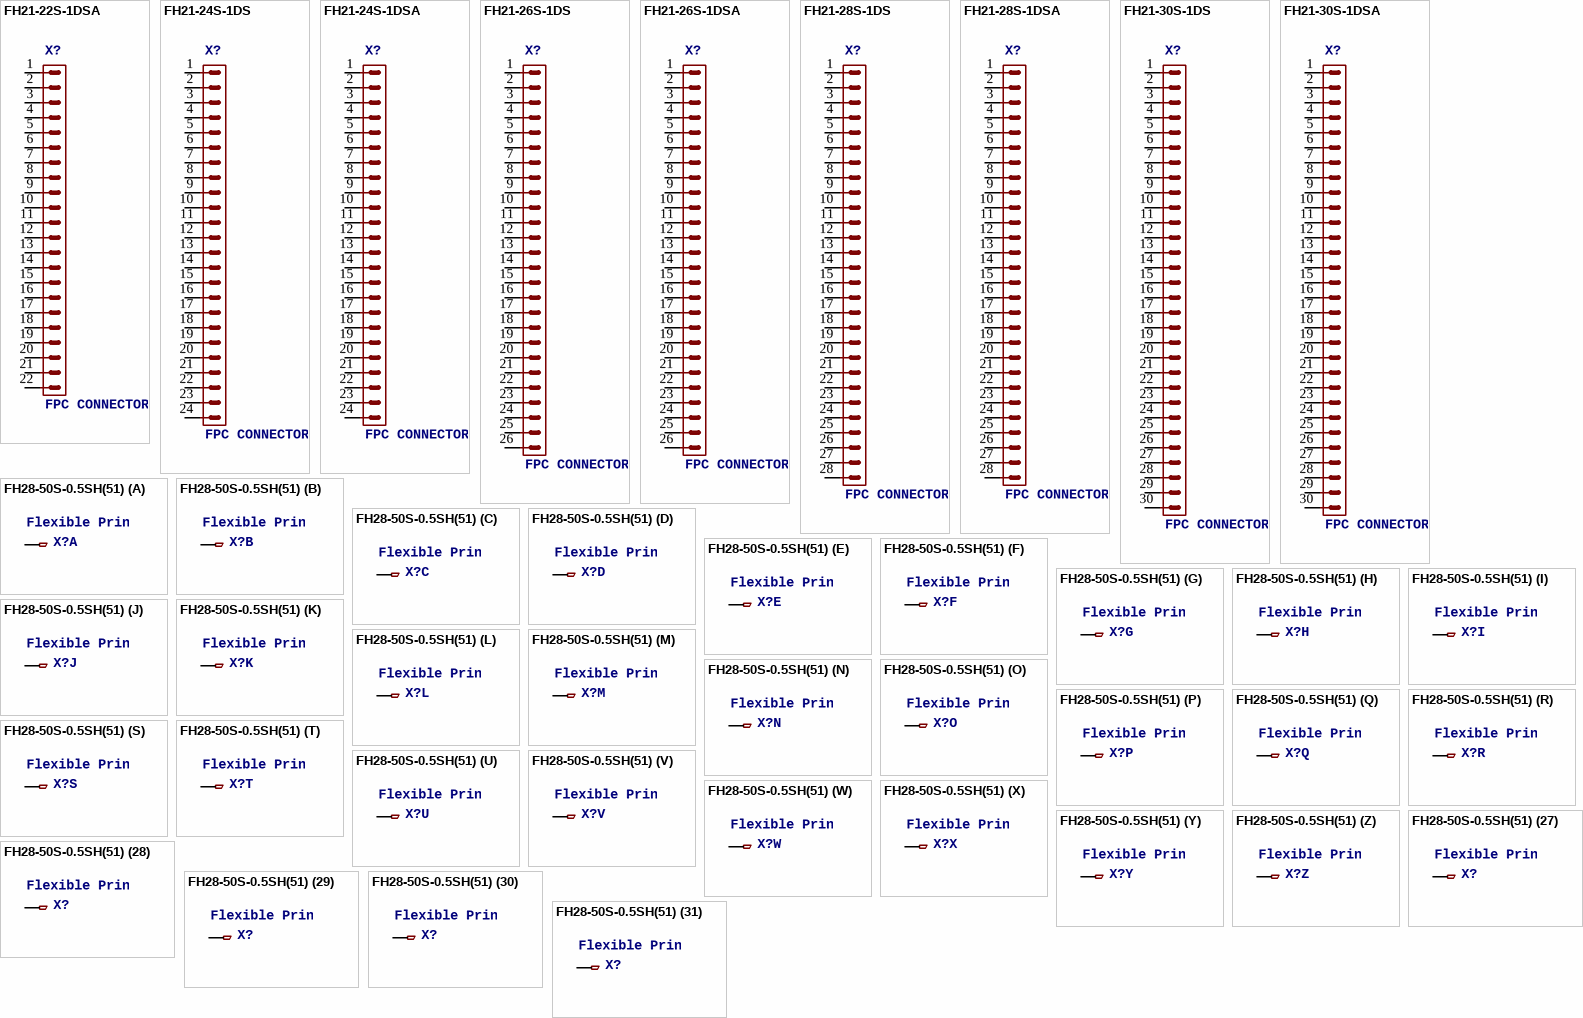
[diagram p20: symbols FH21-22S-1DSA to FH28-50S-0.5SH(51)]

## FH21-22S-1DSA
designator X?, comment FPC CONNECTOR   Source: con-hirose.lbr from Bob Starr <rtzaudio@mindspring.com>
OC_FARNELL: unknown; OC_NEWARK: unknown
footprint FH21-22S-1DSA
pins: 1, 2, 3, 4, 5, 6, 7, 8, 9, 10, 11, 12, 13, 14, 15, 16, 17, 18, 19, 20, 21, 22

## FH21-24S-1DS
designator X?, comment FPC CONNECTOR   Source: con-hirose.lbr from Bob Starr <rtzaudio@mindspring.com>
OC_FARNELL: unknown; OC_NEWARK: unknown
footprint FH21-24S-1DS
pins: 1, 2, 3, 4, 5, 6, 7, 8, 9, 10, 11, 12, 13, 14, 15, 16, 17, 18, 19, 20, 21, 22, 23, 24

## FH21-24S-1DSA
designator X?, comment FPC CONNECTOR   Source: con-hirose.lbr from Bob Starr <rtzaudio@mindspring.com>
OC_FARNELL: unknown; OC_NEWARK: unknown
footprint FH21-24S-1DSA
pins: 1, 2, 3, 4, 5, 6, 7, 8, 9, 10, 11, 12, 13, 14, 15, 16, 17, 18, 19, 20, 21, 22, 23, 24

## FH21-26S-1DS
designator X?, comment FPC CONNECTOR   Source: con-hirose.lbr from Bob Starr <rtzaudio@mindspring.com>
OC_FARNELL: unknown; OC_NEWARK: unknown
footprint FH21-26S-1DS
pins: 1, 2, 3, 4, 5, 6, 7, 8, 9, 10, 11, 12, 13, 14, 15, 16, 17, 18, 19, 20, 21, 22, 23, 24, 25, 26

## FH21-26S-1DSA
designator X?, comment FPC CONNECTOR   Source: con-hirose.lbr from Bob Starr <rtzaudio@mindspring.com>
OC_FARNELL: unknown; OC_NEWARK: unknown
footprint FH21-26S-1DSA
pins: 1, 2, 3, 4, 5, 6, 7, 8, 9, 10, 11, 12, 13, 14, 15, 16, 17, 18, 19, 20, 21, 22, 23, 24, 25, 26

## FH21-28S-1DS
designator X?, comment FPC CONNECTOR   Source: con-hirose.lbr from Bob Starr <rtzaudio@mindspring.com>
OC_FARNELL: unknown; OC_NEWARK: unknown
footprint FH21-28S-1DS
pins: 1, 2, 3, 4, 5, 6, 7, 8, 9, 10, 11, 12, 13, 14, 15, 16, 17, 18, 19, 20, 21, 22, 23, 24, 25, 26, 27, 28

## FH21-28S-1DSA
designator X?, comment FPC CONNECTOR   Source: con-hirose.lbr from Bob Starr <rtzaudio@mindspring.com>
OC_FARNELL: unknown; OC_NEWARK: unknown
footprint FH21-28S-1DSA
pins: 1, 2, 3, 4, 5, 6, 7, 8, 9, 10, 11, 12, 13, 14, 15, 16, 17, 18, 19, 20, 21, 22, 23, 24, 25, 26, 27, 28

## FH21-30S-1DS
designator X?, comment FPC CONNECTOR   Source: con-hirose.lbr from Bob Starr <rtzaudio@mindspring.com>
OC_FARNELL: unknown; OC_NEWARK: unknown
footprint FH21-30S-1DS
pins: 1, 2, 3, 4, 5, 6, 7, 8, 9, 10, 11, 12, 13, 14, 15, 16, 17, 18, 19, 20, 21, 22, 23, 24, 25, 26, 27, 28, 29, 30

## FH21-30S-1DSA
designator X?, comment FPC CONNECTOR   Source: con-hirose.lbr from Bob Starr <rtzaudio@mindspring.com>
OC_FARNELL: unknown; OC_NEWARK: unknown
footprint FH21-30S-1DSA
pins: 1, 2, 3, 4, 5, 6, 7, 8, 9, 10, 11, 12, 13, 14, 15, 16, 17, 18, 19, 20, 21, 22, 23, 24, 25, 26, 27, 28, 29, 30

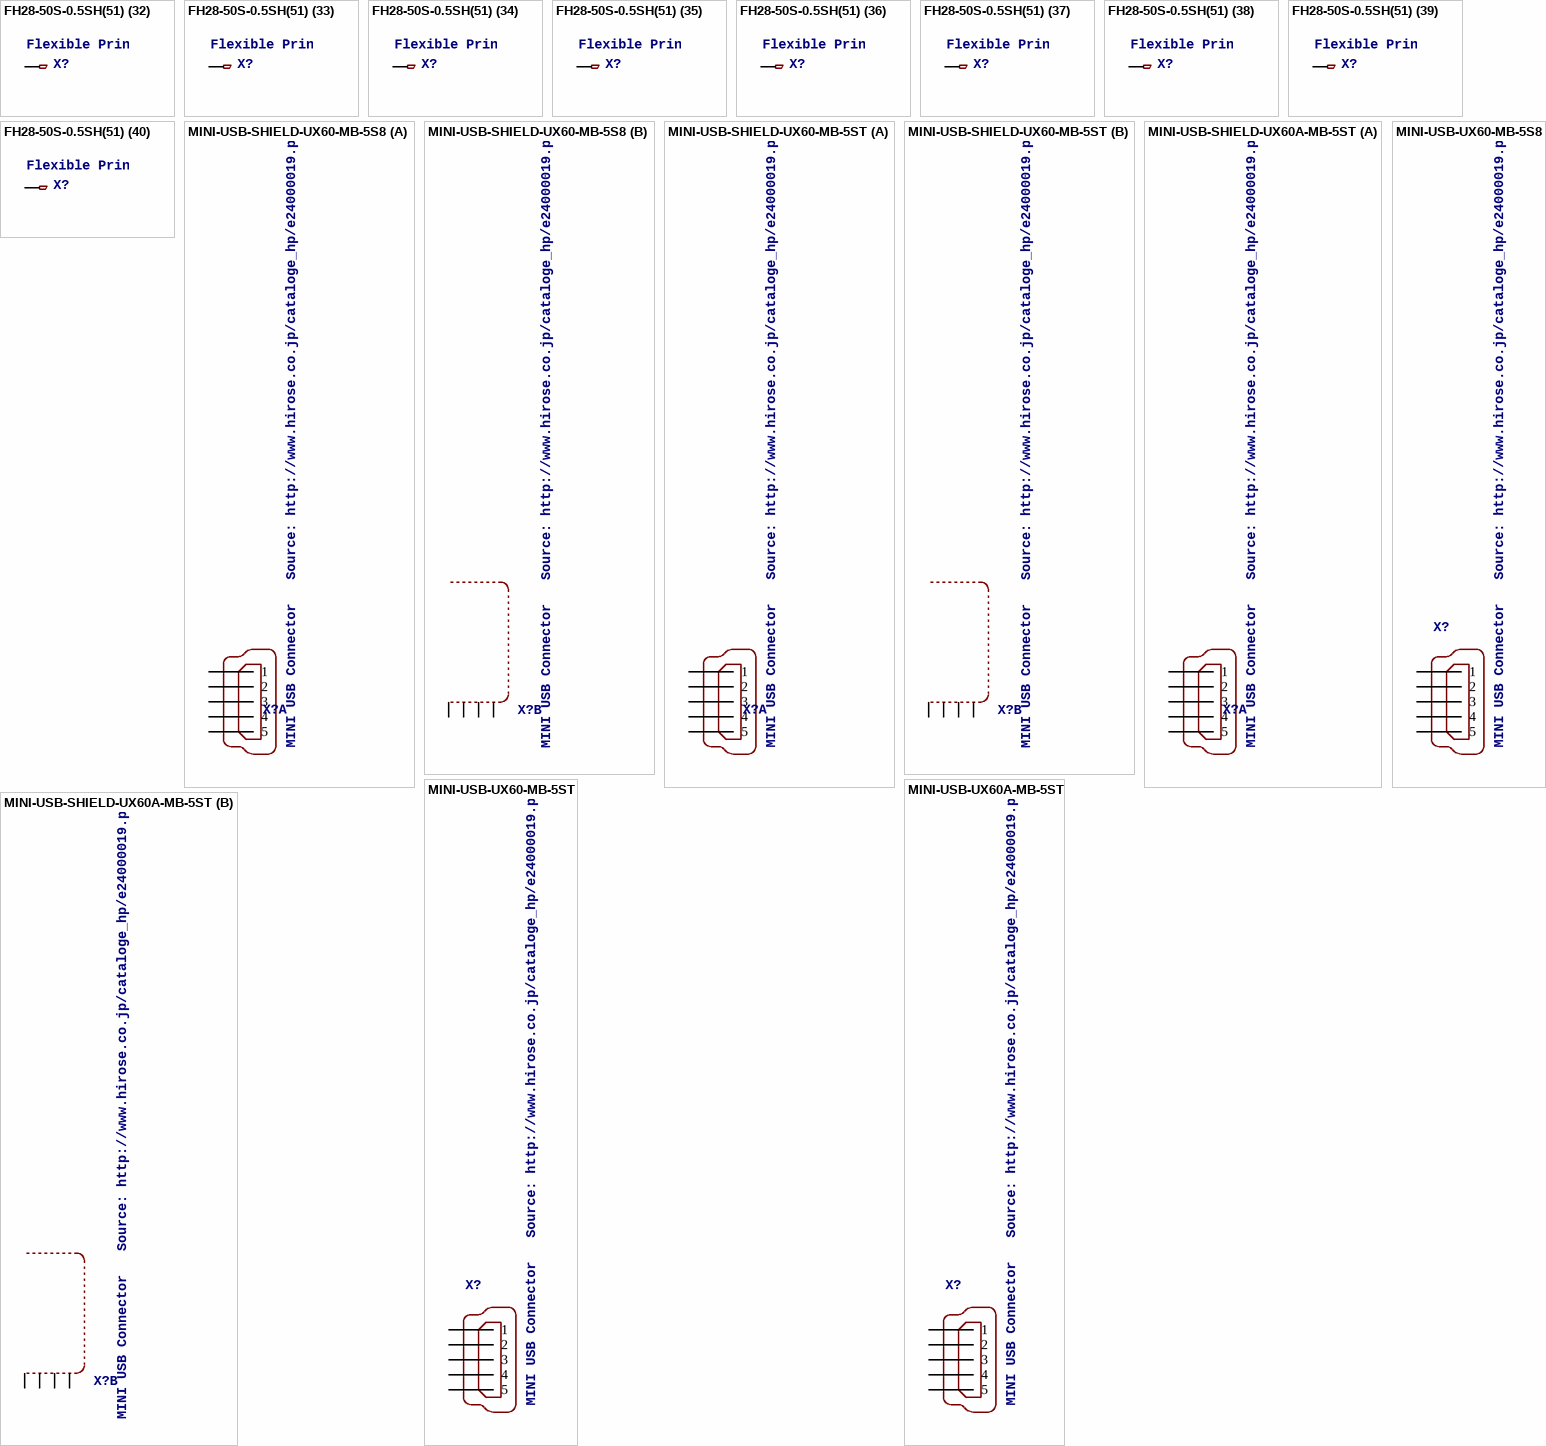
[diagram p21: symbols FH28-50S-0.5SH(51) to MINI-USB-UX60A-MB-5ST]

## FH28-50S-0.5SH(51)
designator X?, comment Flexible Printed Circuit & Flexible Flat Cable ZIF Connectors 0.5 mm Pitch, 2.55 mm above the board   Source: http://www.hirose.co.jp/cataloge_hp/e58618038.pdf
OC_FARNELL: unknown; OC_NEWARK: unknown
footprint FH28-50S-0.5SH(51)
part A pins: 2 1
part B pins: 3 1
part C pins: 4 1
part D pins: 5 1
part E pins: 6 1
part F pins: 7 1
part G pins: 8 1
part H pins: 9 1
part I pins: 10 1
part J pins: 11 1
part K pins: 12 1
part L pins: 13 1
part M pins: 14 1
part N pins: 15 1
part O pins: 16 1
part P pins: 17 1
part Q pins: 18 1
part R pins: 19 1
part S pins: 20 1
part T pins: 21 1
part U pins: 22 1
part V pins: 23 1
part W pins: 24 1
part X pins: 25 1
part Y pins: 26 1
part Z pins: 27 1
part 27 pins: 28 1
part 28 pins: 29 1
part 29 pins: 30 1
part 30 pins: 31 1
part 31 pins: 32 1
part 32 pins: 33 1
part 33 pins: 34 1
part 34 pins: 35 1
part 35 pins: 36 1
part 36 pins: 37 1
part 37 pins: 38 1
part 38 pins: 39 1
part 39 pins: 40 1
part 40 pins: 41 1
part 41 pins: 42 1
part 42 pins: 43 1
part 43 pins: 44 1
part 44 pins: 45 1
part 45 pins: 46 1
part 46 pins: 47 1
part 47 pins: 48 1
part 48 pins: 49 1
part 49 pins: 50 1
part 50 pins: 1

## MINI-USB-SHIELD-UX60-MB-5S8
designator X?, comment MINI USB Connector   Source: http://www.hirose.co.jp/cataloge_hp/e24000019.pdf
OC_FARNELL: unknown; OC_NEWARK: unknown
footprint UX60-MB-5S8
part A pins: 1, 2, 3, 4, 5
part B pins: M1 S1, M2 S2, M3 S3, M4 S4

## MINI-USB-SHIELD-UX60-MB-5ST
designator X?, comment MINI USB Connector   Source: http://www.hirose.co.jp/cataloge_hp/e24000019.pdf
OC_FARNELL: unknown; OC_NEWARK: unknown
footprint UX60-MB-5ST
part A pins: 1, 2, 3, 4, 5
part B pins: M1 S1, M2 S2, M3 S3, M4 S4

## MINI-USB-SHIELD-UX60A-MB-5ST
designator X?, comment MINI USB Connector   Source: http://www.hirose.co.jp/cataloge_hp/e24000019.pdf
OC_FARNELL: unknown; OC_NEWARK: unknown
footprint UX60A-MB-5ST
part A pins: 1, 2, 3, 4, 5
part B pins: M1 S1, M2 S2, M3 S3, M4 S4

## MINI-USB-UX60-MB-5S8
designator X?, comment MINI USB Connector   Source: http://www.hirose.co.jp/cataloge_hp/e24000019.pdf
OC_FARNELL: unknown; OC_NEWARK: unknown
footprint UX60-MB-5S8
pins: 1, 2, 3, 4, 5

## MINI-USB-UX60-MB-5ST
designator X?, comment MINI USB Connector   Source: http://www.hirose.co.jp/cataloge_hp/e24000019.pdf
OC_FARNELL: unknown; OC_NEWARK: unknown
footprint UX60-MB-5ST
pins: 1, 2, 3, 4, 5

## MINI-USB-UX60A-MB-5ST
designator X?, comment MINI USB Connector   Source: http://www.hirose.co.jp/cataloge_hp/e24000019.pdf
OC_FARNELL: unknown; OC_NEWARK: unknown
footprint UX60A-MB-5ST
pins: 1, 2, 3, 4, 5